# Altium integrated library Spansion Memory Flash.IntLib: 812 symbols (part 9 of 21)
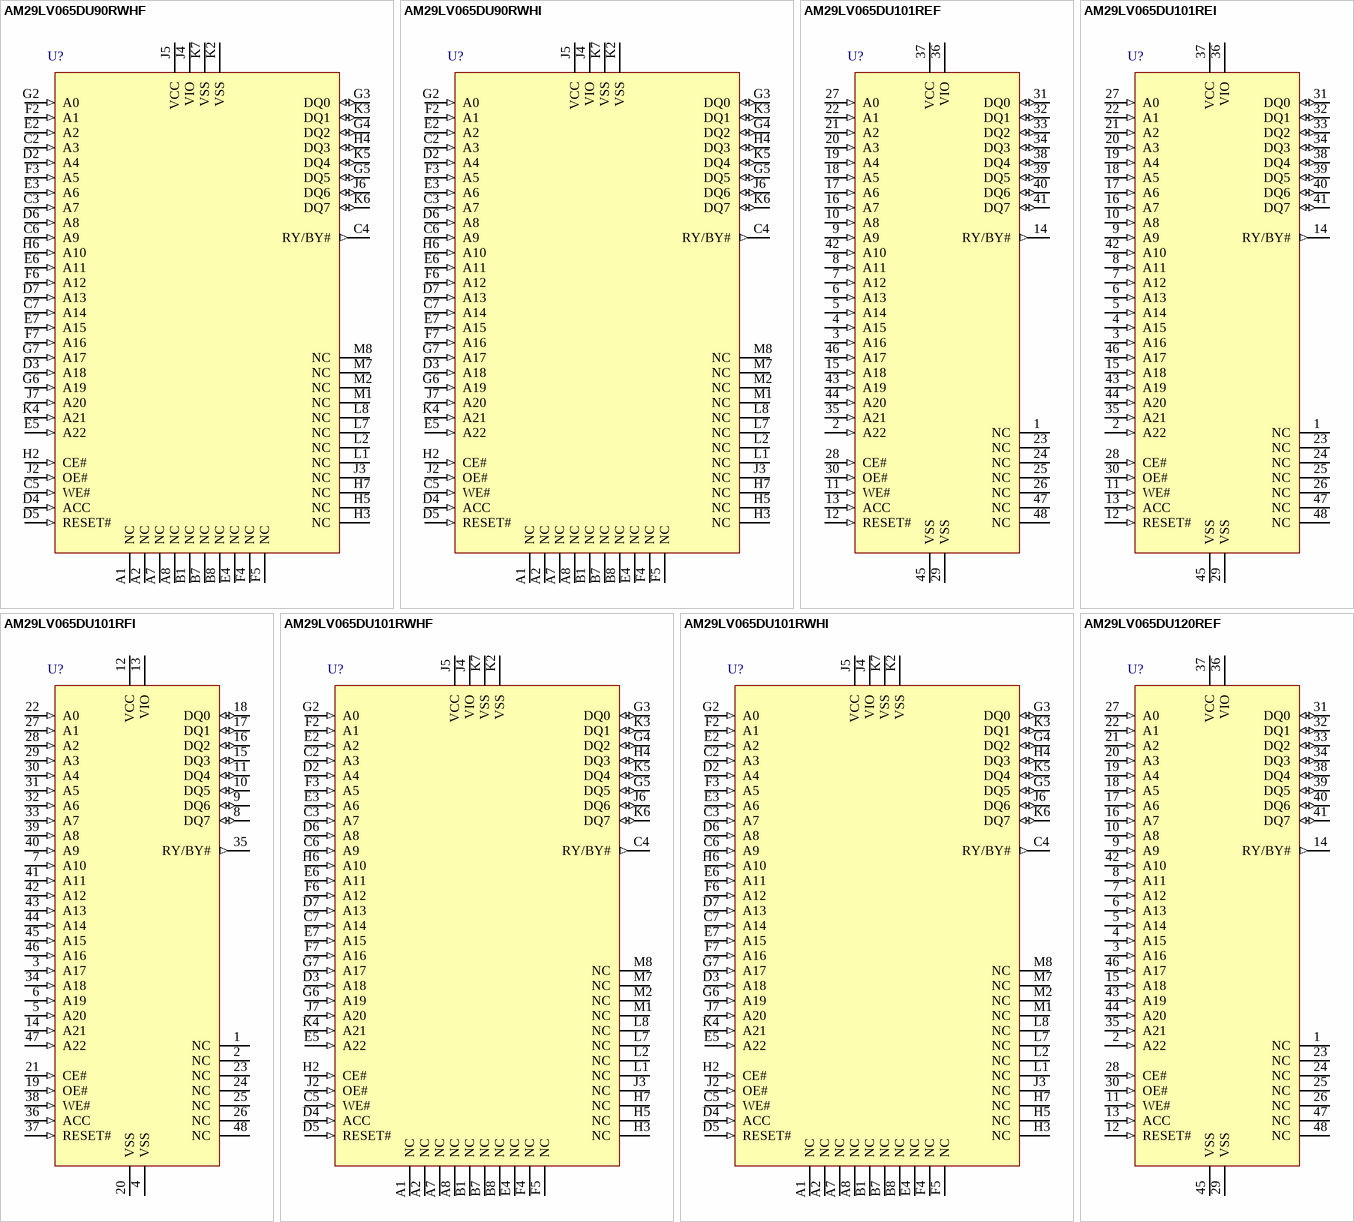
[diagram p74: symbols AM29LV065DU90RWHF to AM29LV065DU120REF]

## AM29LV065DU101RWHI
designator U?
64 Mb (8 M x 8) CMOS 3.0 Volt Uniform Sector Flash Memory with VersatileI/O control, 63-Ball FBGA, Industrial Grade; Published: 6-Oct-2005; LatestRevisionDate: 13-Apr-2006; LatestRevisionNote: IPC-7351 Footprint Added.; DatasheetVersion: Jun-2004; PackageVersion: revAF, 10/99; PackageReference: FBE063; Publisher: Altium Limited; PackageDescription: 63-Ball Fine Pitch Ball Grid Array Rectangular 0.8 mm Pitch; ComponentLink1Description: Manufacturer Link; ComponentLink1URL: http://www.spansion.com/; ComponentLink2Description: Datasheet; ComponentLink2URL: http://www.spansion.com/datasheets/23544c1.pdf
footprint FBE063 (BGA, 63-Leads, Body 12x11mm, Pitch 0.8mm)
pins: A1 NC, A2 NC, A7 NC, A8 NC, B1 NC, B7 NC, B8 NC, C2 A3 (in), C3 A7 (in), C4 RY/BY# (out), C5 WE# (in), C6 A9 (in), C7 A14 (in), D2 A4 (in), D3 A18 (in), D4 ACC (in), D5 RESET# (in), D6 A8 (in), D7 A13 (in), E2 A2 (in), E3 A6 (in), E4 NC, E5 A22 (in), E6 A11 (in), E7 A15 (in), F2 A1 (in), F3 A5 (in), F4 NC, F5 NC, F6 A12 (in), F7 A16 (in), G2 A0 (in), G3 DQ0 (io), G4 DQ2 (io), G5 DQ5 (io), G6 A19 (in), G7 A17 (in), H2 CE# (in), H3 NC, H4 DQ3 (io), H5 NC, H6 A10 (in), H7 NC, J2 OE# (in), J3 NC, J4 VIO (power), J5 VCC (power), J6 DQ6 (io), J7 A20 (in), K2 VSS (power), K3 DQ1 (io), K4 A21 (in), K5 DQ4 (io), K6 DQ7 (io), K7 VSS (power), L1 NC, L2 NC, L7 NC, L8 NC, M1 NC, M2 NC, M7 NC, M8 NC

## AM29LV065DU120REF
designator U?
64 Mb (8 M x 8) CMOS 3.0 Volt Uniform Sector Flash Memory with VersatileI/O control, 48-Pin TSOP Standard Pinout, Industrial Grade, Pb-free; Published: 6-Oct-2005; DatasheetVersion: Jun-2004; PackageVersion: revAA, 10/99; PackageReference: TS048; Publisher: Altium Limited; PackageDescription: Shrink Small Outline; 48 Leads; Body Width 18.4 mm; Pitch 0.5 mm; Code_JEDEC: MO-142-DD; ComponentLink1Description: Manufacturer Link; ComponentLink1URL: http://www.spansion.com/; ComponentLink2Description: Datasheet; ComponentLink2URL: http://www.spansion.com/datasheets/23544c1.pdf
footprint TS048 (Shrink Small Outline; 48 Leads; Body Width 18.4 mm; Pitch 0.5 mm)
pins: 1 NC, 2 A22 (in), 3 A16 (in), 4 A15 (in), 5 A14 (in), 6 A13 (in), 7 A12 (in), 8 A11 (in), 9 A9 (in), 10 A8 (in), 11 WE# (in), 12 RESET# (in), 13 ACC (in), 14 RY/BY# (out), 15 A18 (in), 16 A7 (in), 17 A6 (in), 18 A5 (in), 19 A4 (in), 20 A3 (in), 21 A2 (in), 22 A1 (in), 23 NC, 24 NC, 25 NC, 26 NC, 27 A0 (in), 28 CE# (in), 29 VSS (power), 30 OE# (in), 31 DQ0 (io), 32 DQ1 (io), 33 DQ2 (io), 34 DQ3 (io), 35 A21 (in), 36 VIO (power), 37 VCC (power), 38 DQ4 (io), 39 DQ5 (io), 40 DQ6 (io), 41 DQ7 (io), 42 A10 (in), 43 A19 (in), 44 A20 (in), 45 VSS (power), 46 A17 (in), 47 NC, 48 NC

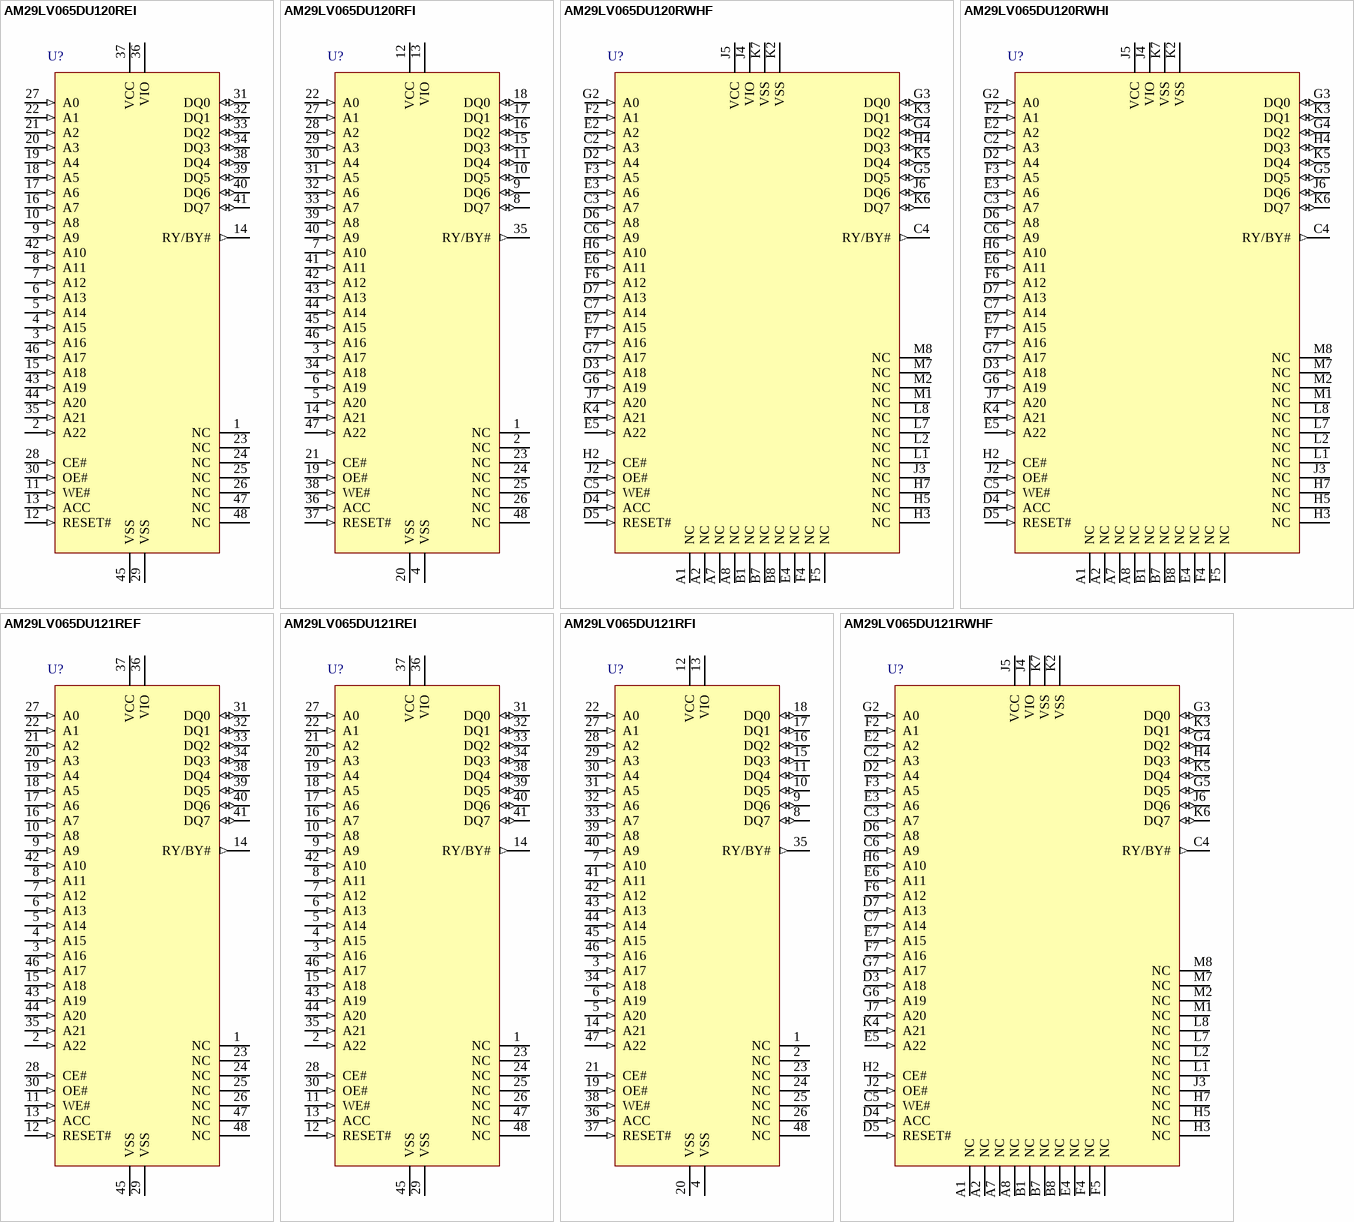
[diagram p25: symbols AM29LV065DU120REI to AM29LV065DU121RWHF]

## AM29LV065DU120REI
designator U?
64 Mb (8 M x 8) CMOS 3.0 Volt Uniform Sector Flash Memory with VersatileI/O control, 48-Pin TSOP Standard Pinout, Industrial Grade; Published: 6-Oct-2005; DatasheetVersion: Jun-2004; PackageVersion: revAA, 10/99; PackageReference: TS048; Publisher: Altium Limited; PackageDescription: Shrink Small Outline; 48 Leads; Body Width 18.4 mm; Pitch 0.5 mm; Code_JEDEC: MO-142-DD; ComponentLink1Description: Manufacturer Link; ComponentLink1URL: http://www.spansion.com/; ComponentLink2Description: Datasheet; ComponentLink2URL: http://www.spansion.com/datasheets/23544c1.pdf
footprint TS048 (Shrink Small Outline; 48 Leads; Body Width 18.4 mm; Pitch 0.5 mm)
pins: 1 NC, 2 A22 (in), 3 A16 (in), 4 A15 (in), 5 A14 (in), 6 A13 (in), 7 A12 (in), 8 A11 (in), 9 A9 (in), 10 A8 (in), 11 WE# (in), 12 RESET# (in), 13 ACC (in), 14 RY/BY# (out), 15 A18 (in), 16 A7 (in), 17 A6 (in), 18 A5 (in), 19 A4 (in), 20 A3 (in), 21 A2 (in), 22 A1 (in), 23 NC, 24 NC, 25 NC, 26 NC, 27 A0 (in), 28 CE# (in), 29 VSS (power), 30 OE# (in), 31 DQ0 (io), 32 DQ1 (io), 33 DQ2 (io), 34 DQ3 (io), 35 A21 (in), 36 VIO (power), 37 VCC (power), 38 DQ4 (io), 39 DQ5 (io), 40 DQ6 (io), 41 DQ7 (io), 42 A10 (in), 43 A19 (in), 44 A20 (in), 45 VSS (power), 46 A17 (in), 47 NC, 48 NC

## AM29LV065DU120RFI
designator U?
64 Mb (8 M x 8) CMOS 3.0 Volt Uniform Sector Flash Memory with VersatileI/O control, 48-Pin TSOP Reverse Pinout, Industrial Grade; Published: 6-Oct-2005; DatasheetVersion: Jun-2004; PackageVersion: revAA, 10/99; PackageReference: TSR048; Publisher: Altium Limited; PackageDescription: Thin Small Outline, Reverse Pinout; 48 Leads; Body Width 18.4 mm; Pitch 0.5 mm; Code_JEDEC: MO-142-DD; ComponentLink1Description: Manufacturer Link; ComponentLink1URL: http://www.spansion.com/; ComponentLink2Description: Datasheet; ComponentLink2URL: http://www.spansion.com/datasheets/23544c1.pdf
footprint TSR048 (Thin Small Outline, Reverse Pinout; 48 Leads; Body Width 18.4 mm; Pitch 0.5 mm)
pins: 1 NC, 2 NC, 3 A17 (in), 4 VSS (power), 5 A20 (in), 6 A19 (in), 7 A10 (in), 8 DQ7 (io), 9 DQ6 (io), 10 DQ5 (io), 11 DQ4 (io), 12 VCC (power), 13 VIO (power), 14 A21 (in), 15 DQ3 (io), 16 DQ2 (io), 17 DQ1 (io), 18 DQ0 (io), 19 OE# (in), 20 VSS (power), 21 CE# (in), 22 A0 (in), 23 NC, 24 NC, 25 NC, 26 NC, 27 A1 (in), 28 A2 (in), 29 A3 (in), 30 A4 (in), 31 A5 (in), 32 A6 (in), 33 A7 (in), 34 A18 (in), 35 RY/BY# (out), 36 ACC (in), 37 RESET# (in), 38 WE# (in), 39 A8 (in), 40 A9 (in), 41 A11 (in), 42 A12 (in), 43 A13 (in), 44 A14 (in), 45 A15 (in), 46 A16 (in), 47 A22 (in), 48 NC

## AM29LV065DU120RWHF
designator U?
64 Mb (8 M x 8) CMOS 3.0 Volt Uniform Sector Flash Memory with VersatileI/O control, 63-Ball FBGA, Industrial Grade, Pb-free; Published: 6-Oct-2005; LatestRevisionDate: 13-Apr-2006; LatestRevisionNote: IPC-7351 Footprint Added.; DatasheetVersion: Jun-2004; PackageVersion: revAF, 10/99; PackageReference: FBE063; Publisher: Altium Limited; PackageDescription: 63-Ball Fine Pitch Ball Grid Array Rectangular 0.8 mm Pitch; ComponentLink1Description: Manufacturer Link; ComponentLink1URL: http://www.spansion.com/; ComponentLink2Description: Datasheet; ComponentLink2URL: http://www.spansion.com/datasheets/23544c1.pdf
footprint FBE063 (BGA, 63-Leads, Body 12x11mm, Pitch 0.8mm)
pins: A1 NC, A2 NC, A7 NC, A8 NC, B1 NC, B7 NC, B8 NC, C2 A3 (in), C3 A7 (in), C4 RY/BY# (out), C5 WE# (in), C6 A9 (in), C7 A14 (in), D2 A4 (in), D3 A18 (in), D4 ACC (in), D5 RESET# (in), D6 A8 (in), D7 A13 (in), E2 A2 (in), E3 A6 (in), E4 NC, E5 A22 (in), E6 A11 (in), E7 A15 (in), F2 A1 (in), F3 A5 (in), F4 NC, F5 NC, F6 A12 (in), F7 A16 (in), G2 A0 (in), G3 DQ0 (io), G4 DQ2 (io), G5 DQ5 (io), G6 A19 (in), G7 A17 (in), H2 CE# (in), H3 NC, H4 DQ3 (io), H5 NC, H6 A10 (in), H7 NC, J2 OE# (in), J3 NC, J4 VIO (power), J5 VCC (power), J6 DQ6 (io), J7 A20 (in), K2 VSS (power), K3 DQ1 (io), K4 A21 (in), K5 DQ4 (io), K6 DQ7 (io), K7 VSS (power), L1 NC, L2 NC, L7 NC, L8 NC, M1 NC, M2 NC, M7 NC, M8 NC

## AM29LV065DU120RWHI
designator U?
64 Mb (8 M x 8) CMOS 3.0 Volt Uniform Sector Flash Memory with VersatileI/O control, 63-Ball FBGA, Industrial Grade; Published: 6-Oct-2005; LatestRevisionDate: 13-Apr-2006; LatestRevisionNote: IPC-7351 Footprint Added.; DatasheetVersion: Jun-2004; PackageVersion: revAF, 10/99; PackageReference: FBE063; Publisher: Altium Limited; PackageDescription: 63-Ball Fine Pitch Ball Grid Array Rectangular 0.8 mm Pitch; ComponentLink1Description: Manufacturer Link; ComponentLink1URL: http://www.spansion.com/; ComponentLink2Description: Datasheet; ComponentLink2URL: http://www.spansion.com/datasheets/23544c1.pdf
footprint FBE063 (BGA, 63-Leads, Body 12x11mm, Pitch 0.8mm)
pins: A1 NC, A2 NC, A7 NC, A8 NC, B1 NC, B7 NC, B8 NC, C2 A3 (in), C3 A7 (in), C4 RY/BY# (out), C5 WE# (in), C6 A9 (in), C7 A14 (in), D2 A4 (in), D3 A18 (in), D4 ACC (in), D5 RESET# (in), D6 A8 (in), D7 A13 (in), E2 A2 (in), E3 A6 (in), E4 NC, E5 A22 (in), E6 A11 (in), E7 A15 (in), F2 A1 (in), F3 A5 (in), F4 NC, F5 NC, F6 A12 (in), F7 A16 (in), G2 A0 (in), G3 DQ0 (io), G4 DQ2 (io), G5 DQ5 (io), G6 A19 (in), G7 A17 (in), H2 CE# (in), H3 NC, H4 DQ3 (io), H5 NC, H6 A10 (in), H7 NC, J2 OE# (in), J3 NC, J4 VIO (power), J5 VCC (power), J6 DQ6 (io), J7 A20 (in), K2 VSS (power), K3 DQ1 (io), K4 A21 (in), K5 DQ4 (io), K6 DQ7 (io), K7 VSS (power), L1 NC, L2 NC, L7 NC, L8 NC, M1 NC, M2 NC, M7 NC, M8 NC

## AM29LV065DU121REF
designator U?
64 Mb (8 M x 8) CMOS 3.0 Volt Uniform Sector Flash Memory with VersatileI/O control, 48-Pin TSOP Standard Pinout, Industrial Grade, Pb-free; Published: 6-Oct-2005; DatasheetVersion: Jun-2004; PackageVersion: revAA, 10/99; PackageReference: TS048; Publisher: Altium Limited; PackageDescription: Shrink Small Outline; 48 Leads; Body Width 18.4 mm; Pitch 0.5 mm; Code_JEDEC: MO-142-DD; ComponentLink1Description: Manufacturer Link; ComponentLink1URL: http://www.spansion.com/; ComponentLink2Description: Datasheet; ComponentLink2URL: http://www.spansion.com/datasheets/23544c1.pdf
footprint TS048 (Shrink Small Outline; 48 Leads; Body Width 18.4 mm; Pitch 0.5 mm)
pins: 1 NC, 2 A22 (in), 3 A16 (in), 4 A15 (in), 5 A14 (in), 6 A13 (in), 7 A12 (in), 8 A11 (in), 9 A9 (in), 10 A8 (in), 11 WE# (in), 12 RESET# (in), 13 ACC (in), 14 RY/BY# (out), 15 A18 (in), 16 A7 (in), 17 A6 (in), 18 A5 (in), 19 A4 (in), 20 A3 (in), 21 A2 (in), 22 A1 (in), 23 NC, 24 NC, 25 NC, 26 NC, 27 A0 (in), 28 CE# (in), 29 VSS (power), 30 OE# (in), 31 DQ0 (io), 32 DQ1 (io), 33 DQ2 (io), 34 DQ3 (io), 35 A21 (in), 36 VIO (power), 37 VCC (power), 38 DQ4 (io), 39 DQ5 (io), 40 DQ6 (io), 41 DQ7 (io), 42 A10 (in), 43 A19 (in), 44 A20 (in), 45 VSS (power), 46 A17 (in), 47 NC, 48 NC

## AM29LV065DU121REI
designator U?
64 Mb (8 M x 8) CMOS 3.0 Volt Uniform Sector Flash Memory with VersatileI/O control, 48-Pin TSOP Standard Pinout, Industrial Grade; Published: 6-Oct-2005; DatasheetVersion: Jun-2004; PackageVersion: revAA, 10/99; PackageReference: TS048; Publisher: Altium Limited; PackageDescription: Shrink Small Outline; 48 Leads; Body Width 18.4 mm; Pitch 0.5 mm; Code_JEDEC: MO-142-DD; ComponentLink1Description: Manufacturer Link; ComponentLink1URL: http://www.spansion.com/; ComponentLink2Description: Datasheet; ComponentLink2URL: http://www.spansion.com/datasheets/23544c1.pdf
footprint TS048 (Shrink Small Outline; 48 Leads; Body Width 18.4 mm; Pitch 0.5 mm)
pins: 1 NC, 2 A22 (in), 3 A16 (in), 4 A15 (in), 5 A14 (in), 6 A13 (in), 7 A12 (in), 8 A11 (in), 9 A9 (in), 10 A8 (in), 11 WE# (in), 12 RESET# (in), 13 ACC (in), 14 RY/BY# (out), 15 A18 (in), 16 A7 (in), 17 A6 (in), 18 A5 (in), 19 A4 (in), 20 A3 (in), 21 A2 (in), 22 A1 (in), 23 NC, 24 NC, 25 NC, 26 NC, 27 A0 (in), 28 CE# (in), 29 VSS (power), 30 OE# (in), 31 DQ0 (io), 32 DQ1 (io), 33 DQ2 (io), 34 DQ3 (io), 35 A21 (in), 36 VIO (power), 37 VCC (power), 38 DQ4 (io), 39 DQ5 (io), 40 DQ6 (io), 41 DQ7 (io), 42 A10 (in), 43 A19 (in), 44 A20 (in), 45 VSS (power), 46 A17 (in), 47 NC, 48 NC

## AM29LV065DU121RFI
designator U?
64 Mb (8 M x 8) CMOS 3.0 Volt Uniform Sector Flash Memory with VersatileI/O control, 48-Pin TSOP Reverse Pinout, Industrial Grade; Published: 6-Oct-2005; DatasheetVersion: Jun-2004; PackageVersion: revAA, 10/99; PackageReference: TSR048; Publisher: Altium Limited; PackageDescription: Thin Small Outline, Reverse Pinout; 48 Leads; Body Width 18.4 mm; Pitch 0.5 mm; Code_JEDEC: MO-142-DD; ComponentLink1Description: Manufacturer Link; ComponentLink1URL: http://www.spansion.com/; ComponentLink2Description: Datasheet; ComponentLink2URL: http://www.spansion.com/datasheets/23544c1.pdf
footprint TSR048 (Thin Small Outline, Reverse Pinout; 48 Leads; Body Width 18.4 mm; Pitch 0.5 mm)
pins: 1 NC, 2 NC, 3 A17 (in), 4 VSS (power), 5 A20 (in), 6 A19 (in), 7 A10 (in), 8 DQ7 (io), 9 DQ6 (io), 10 DQ5 (io), 11 DQ4 (io), 12 VCC (power), 13 VIO (power), 14 A21 (in), 15 DQ3 (io), 16 DQ2 (io), 17 DQ1 (io), 18 DQ0 (io), 19 OE# (in), 20 VSS (power), 21 CE# (in), 22 A0 (in), 23 NC, 24 NC, 25 NC, 26 NC, 27 A1 (in), 28 A2 (in), 29 A3 (in), 30 A4 (in), 31 A5 (in), 32 A6 (in), 33 A7 (in), 34 A18 (in), 35 RY/BY# (out), 36 ACC (in), 37 RESET# (in), 38 WE# (in), 39 A8 (in), 40 A9 (in), 41 A11 (in), 42 A12 (in), 43 A13 (in), 44 A14 (in), 45 A15 (in), 46 A16 (in), 47 A22 (in), 48 NC

## AM29LV065DU121RWHF
designator U?
64 Mb (8 M x 8) CMOS 3.0 Volt Uniform Sector Flash Memory with VersatileI/O control, 63-Ball FBGA, Industrial Grade, Pb-free; Published: 6-Oct-2005; LatestRevisionDate: 13-Apr-2006; LatestRevisionNote: IPC-7351 Footprint Added.; DatasheetVersion: Jun-2004; PackageVersion: revAF, 10/99; PackageReference: FBE063; Publisher: Altium Limited; PackageDescription: 63-Ball Fine Pitch Ball Grid Array Rectangular 0.8 mm Pitch; ComponentLink1Description: Manufacturer Link; ComponentLink1URL: http://www.spansion.com/; ComponentLink2Description: Datasheet; ComponentLink2URL: http://www.spansion.com/datasheets/23544c1.pdf
footprint FBE063 (BGA, 63-Leads, Body 12x11mm, Pitch 0.8mm)
pins: A1 NC, A2 NC, A7 NC, A8 NC, B1 NC, B7 NC, B8 NC, C2 A3 (in), C3 A7 (in), C4 RY/BY# (out), C5 WE# (in), C6 A9 (in), C7 A14 (in), D2 A4 (in), D3 A18 (in), D4 ACC (in), D5 RESET# (in), D6 A8 (in), D7 A13 (in), E2 A2 (in), E3 A6 (in), E4 NC, E5 A22 (in), E6 A11 (in), E7 A15 (in), F2 A1 (in), F3 A5 (in), F4 NC, F5 NC, F6 A12 (in), F7 A16 (in), G2 A0 (in), G3 DQ0 (io), G4 DQ2 (io), G5 DQ5 (io), G6 A19 (in), G7 A17 (in), H2 CE# (in), H3 NC, H4 DQ3 (io), H5 NC, H6 A10 (in), H7 NC, J2 OE# (in), J3 NC, J4 VIO (power), J5 VCC (power), J6 DQ6 (io), J7 A20 (in), K2 VSS (power), K3 DQ1 (io), K4 A21 (in), K5 DQ4 (io), K6 DQ7 (io), K7 VSS (power), L1 NC, L2 NC, L7 NC, L8 NC, M1 NC, M2 NC, M7 NC, M8 NC

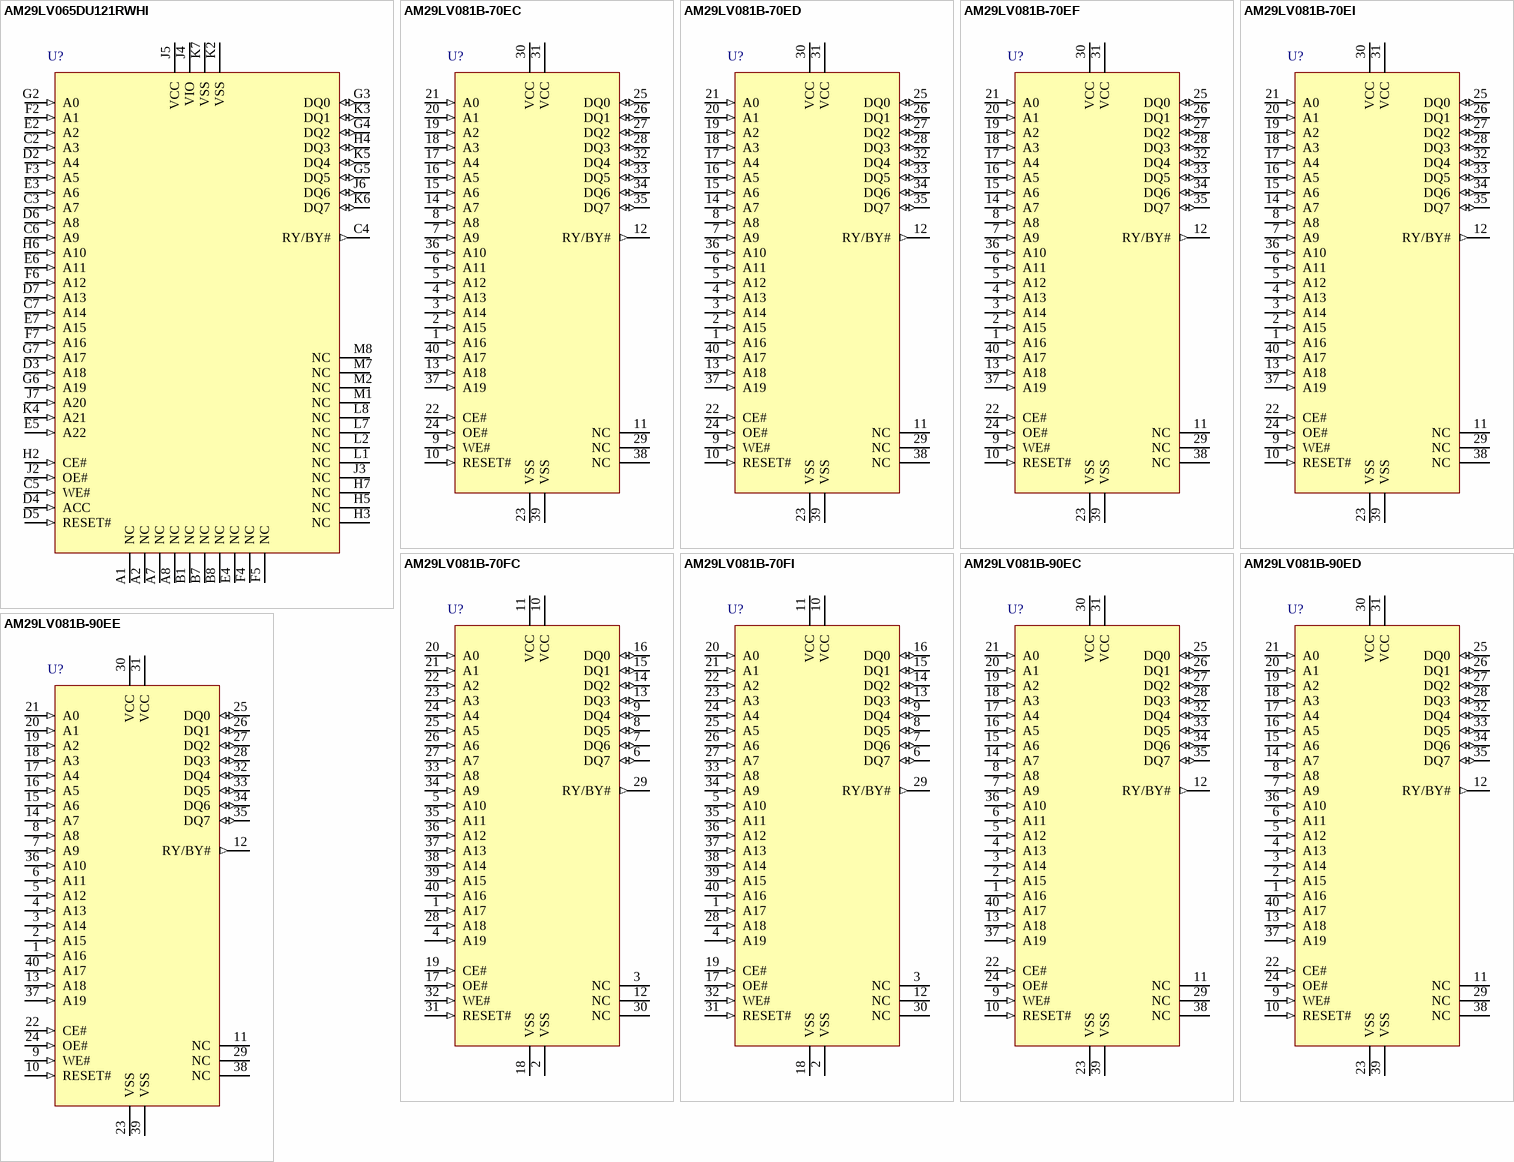
[diagram p26: symbols AM29LV065DU121RWHI to AM29LV081B-90EE]

## AM29LV065DU121RWHI
designator U?
64 Mb (8 M x 8) CMOS 3.0 Volt Uniform Sector Flash Memory with VersatileI/O control, 63-Ball FBGA, Industrial Grade; Published: 6-Oct-2005; LatestRevisionDate: 13-Apr-2006; LatestRevisionNote: IPC-7351 Footprint Added.; DatasheetVersion: Jun-2004; PackageVersion: revAF, 10/99; PackageReference: FBE063; Publisher: Altium Limited; PackageDescription: 63-Ball Fine Pitch Ball Grid Array Rectangular 0.8 mm Pitch; ComponentLink1Description: Manufacturer Link; ComponentLink1URL: http://www.spansion.com/; ComponentLink2Description: Datasheet; ComponentLink2URL: http://www.spansion.com/datasheets/23544c1.pdf
footprint FBE063 (BGA, 63-Leads, Body 12x11mm, Pitch 0.8mm)
pins: A1 NC, A2 NC, A7 NC, A8 NC, B1 NC, B7 NC, B8 NC, C2 A3 (in), C3 A7 (in), C4 RY/BY# (out), C5 WE# (in), C6 A9 (in), C7 A14 (in), D2 A4 (in), D3 A18 (in), D4 ACC (in), D5 RESET# (in), D6 A8 (in), D7 A13 (in), E2 A2 (in), E3 A6 (in), E4 NC, E5 A22 (in), E6 A11 (in), E7 A15 (in), F2 A1 (in), F3 A5 (in), F4 NC, F5 NC, F6 A12 (in), F7 A16 (in), G2 A0 (in), G3 DQ0 (io), G4 DQ2 (io), G5 DQ5 (io), G6 A19 (in), G7 A17 (in), H2 CE# (in), H3 NC, H4 DQ3 (io), H5 NC, H6 A10 (in), H7 NC, J2 OE# (in), J3 NC, J4 VIO (power), J5 VCC (power), J6 DQ6 (io), J7 A20 (in), K2 VSS (power), K3 DQ1 (io), K4 A21 (in), K5 DQ4 (io), K6 DQ7 (io), K7 VSS (power), L1 NC, L2 NC, L7 NC, L8 NC, M1 NC, M2 NC, M7 NC, M8 NC

## AM29LV081B-70EC
designator U?
8 Mb (1 M x 8) CMOS 3.0 Volt Uniform Sector Flash Memory, 40-Pin TSOP Standard Pinout, Commercial Grade; Published: 6-Oct-2005; DatasheetVersion: Jun-2004; PackageVersion: revAA, 10/99; PackageReference: TS040; Publisher: Altium Limited; PackageDescription: Thin Small Outline; 40 Leads; Body Width 18.4 mm; Pitch 0.5 mm; Code_JEDEC: MO-142-CD; ComponentLink1Description: Manufacturer Link; ComponentLink1URL: http://www.spansion.com/; ComponentLink2Description: Datasheet; ComponentLink2URL: http://www.spansion.com/datasheets/21525d3.pdf
footprint TS040 (Thin Small Outline; 40 Leads; Body Width 18.4 mm; Pitch 0.5 mm)
pins: 1 A16 (in), 2 A15 (in), 3 A14 (in), 4 A13 (in), 5 A12 (in), 6 A11 (in), 7 A9 (in), 8 A8 (in), 9 WE# (in), 10 RESET# (in), 11 NC, 12 RY/BY# (out), 13 A18 (in), 14 A7 (in), 15 A6 (in), 16 A5 (in), 17 A4 (in), 18 A3 (in), 19 A2 (in), 20 A1 (in), 21 A0 (in), 22 CE# (in), 23 VSS (power), 24 OE# (in), 25 DQ0 (io), 26 DQ1 (io), 27 DQ2 (io), 28 DQ3 (io), 29 NC, 30 VCC (power), 31 VCC (power), 32 DQ4 (io), 33 DQ5 (io), 34 DQ6 (io), 35 DQ7 (io), 36 A10 (in), 37 A19 (in), 38 NC, 39 VSS (power), 40 A17 (in)

## AM29LV081B-70ED
designator U?
8 Mb (1 M x 8) CMOS 3.0 Volt Uniform Sector Flash Memory, 40-Pin TSOP Standard Pinout, Commercial Grade, Pb-free; Published: 6-Oct-2005; DatasheetVersion: Jun-2004; PackageVersion: revAA, 10/99; PackageReference: TS040; Publisher: Altium Limited; PackageDescription: Thin Small Outline; 40 Leads; Body Width 18.4 mm; Pitch 0.5 mm; Code_JEDEC: MO-142-CD; ComponentLink1Description: Manufacturer Link; ComponentLink1URL: http://www.spansion.com/; ComponentLink2Description: Datasheet; ComponentLink2URL: http://www.spansion.com/datasheets/21525d3.pdf
footprint TS040 (Thin Small Outline; 40 Leads; Body Width 18.4 mm; Pitch 0.5 mm)
pins: 1 A16 (in), 2 A15 (in), 3 A14 (in), 4 A13 (in), 5 A12 (in), 6 A11 (in), 7 A9 (in), 8 A8 (in), 9 WE# (in), 10 RESET# (in), 11 NC, 12 RY/BY# (out), 13 A18 (in), 14 A7 (in), 15 A6 (in), 16 A5 (in), 17 A4 (in), 18 A3 (in), 19 A2 (in), 20 A1 (in), 21 A0 (in), 22 CE# (in), 23 VSS (power), 24 OE# (in), 25 DQ0 (io), 26 DQ1 (io), 27 DQ2 (io), 28 DQ3 (io), 29 NC, 30 VCC (power), 31 VCC (power), 32 DQ4 (io), 33 DQ5 (io), 34 DQ6 (io), 35 DQ7 (io), 36 A10 (in), 37 A19 (in), 38 NC, 39 VSS (power), 40 A17 (in)

## AM29LV081B-70EF
designator U?
8 Mb (1 M x 8) CMOS 3.0 Volt Uniform Sector Flash Memory, 40-Pin TSOP Standard Pinout, Industrial Grade, Pb-free; Published: 6-Oct-2005; DatasheetVersion: Jun-2004; PackageVersion: revAA, 10/99; PackageReference: TS040; Publisher: Altium Limited; PackageDescription: Thin Small Outline; 40 Leads; Body Width 18.4 mm; Pitch 0.5 mm; Code_JEDEC: MO-142-CD; ComponentLink1Description: Manufacturer Link; ComponentLink1URL: http://www.spansion.com/; ComponentLink2Description: Datasheet; ComponentLink2URL: http://www.spansion.com/datasheets/21525d3.pdf
footprint TS040 (Thin Small Outline; 40 Leads; Body Width 18.4 mm; Pitch 0.5 mm)
pins: 1 A16 (in), 2 A15 (in), 3 A14 (in), 4 A13 (in), 5 A12 (in), 6 A11 (in), 7 A9 (in), 8 A8 (in), 9 WE# (in), 10 RESET# (in), 11 NC, 12 RY/BY# (out), 13 A18 (in), 14 A7 (in), 15 A6 (in), 16 A5 (in), 17 A4 (in), 18 A3 (in), 19 A2 (in), 20 A1 (in), 21 A0 (in), 22 CE# (in), 23 VSS (power), 24 OE# (in), 25 DQ0 (io), 26 DQ1 (io), 27 DQ2 (io), 28 DQ3 (io), 29 NC, 30 VCC (power), 31 VCC (power), 32 DQ4 (io), 33 DQ5 (io), 34 DQ6 (io), 35 DQ7 (io), 36 A10 (in), 37 A19 (in), 38 NC, 39 VSS (power), 40 A17 (in)

## AM29LV081B-70EI
designator U?
8 Mb (1 M x 8) CMOS 3.0 Volt Uniform Sector Flash Memory, 40-Pin TSOP Standard Pinout, Industrial Grade; Published: 6-Oct-2005; DatasheetVersion: Jun-2004; PackageVersion: revAA, 10/99; PackageReference: TS040; Publisher: Altium Limited; PackageDescription: Thin Small Outline; 40 Leads; Body Width 18.4 mm; Pitch 0.5 mm; Code_JEDEC: MO-142-CD; ComponentLink1Description: Manufacturer Link; ComponentLink1URL: http://www.spansion.com/; ComponentLink2Description: Datasheet; ComponentLink2URL: http://www.spansion.com/datasheets/21525d3.pdf
footprint TS040 (Thin Small Outline; 40 Leads; Body Width 18.4 mm; Pitch 0.5 mm)
pins: 1 A16 (in), 2 A15 (in), 3 A14 (in), 4 A13 (in), 5 A12 (in), 6 A11 (in), 7 A9 (in), 8 A8 (in), 9 WE# (in), 10 RESET# (in), 11 NC, 12 RY/BY# (out), 13 A18 (in), 14 A7 (in), 15 A6 (in), 16 A5 (in), 17 A4 (in), 18 A3 (in), 19 A2 (in), 20 A1 (in), 21 A0 (in), 22 CE# (in), 23 VSS (power), 24 OE# (in), 25 DQ0 (io), 26 DQ1 (io), 27 DQ2 (io), 28 DQ3 (io), 29 NC, 30 VCC (power), 31 VCC (power), 32 DQ4 (io), 33 DQ5 (io), 34 DQ6 (io), 35 DQ7 (io), 36 A10 (in), 37 A19 (in), 38 NC, 39 VSS (power), 40 A17 (in)

## AM29LV081B-70FC
designator U?
8 Mb (1 M x 8) CMOS 3.0 Volt Uniform Sector Flash Memory, 40-Pin TSOP Reverse Pinout, Commercial Grade; Published: 6-Oct-2005; DatasheetVersion: Jun-2004; PackageVersion: revAA, 10/99; PackageReference: TSR040; Publisher: Altium Limited; PackageDescription: Thin Small Outline, Reverse Pinout; 40 Leads; Body Width 18.4 mm; Pitch 0.5 mm; Code_JEDEC: MO-142-CD; ComponentLink1Description: Manufacturer Link; ComponentLink1URL: http://www.spansion.com/; ComponentLink2Description: Datasheet; ComponentLink2URL: http://www.spansion.com/datasheets/21525d3.pdf
footprint TSR040 (Thin Small Outline, Reverse Pinout; 40 Leads; Body Width 18.4 mm; Pitch 0.5 mm)
pins: 1 A17 (in), 2 VSS (power), 3 NC, 4 A19 (in), 5 A10 (in), 6 DQ7 (io), 7 DQ6 (io), 8 DQ5 (io), 9 DQ4 (io), 10 VCC (power), 11 VCC (power), 12 NC, 13 DQ3 (io), 14 DQ2 (io), 15 DQ1 (io), 16 DQ0 (io), 17 OE# (in), 18 VSS (power), 19 CE# (in), 20 A0 (in), 21 A1 (in), 22 A2 (in), 23 A3 (in), 24 A4 (in), 25 A5 (in), 26 A6 (in), 27 A7 (in), 28 A18 (in), 29 RY/BY# (out), 30 NC, 31 RESET# (in), 32 WE# (in), 33 A8 (in), 34 A9 (in), 35 A11 (in), 36 A12 (in), 37 A13 (in), 38 A14 (in), 39 A15 (in), 40 A16 (in)

## AM29LV081B-70FI
designator U?
8 Mb (1 M x 8) CMOS 3.0 Volt Uniform Sector Flash Memory, 40-Pin TSOP Reverse Pinout, Industrial Grade; Published: 6-Oct-2005; DatasheetVersion: Jun-2004; PackageVersion: revAA, 10/99; PackageReference: TSR040; Publisher: Altium Limited; PackageDescription: Thin Small Outline, Reverse Pinout; 40 Leads; Body Width 18.4 mm; Pitch 0.5 mm; Code_JEDEC: MO-142-CD; ComponentLink1Description: Manufacturer Link; ComponentLink1URL: http://www.spansion.com/; ComponentLink2Description: Datasheet; ComponentLink2URL: http://www.spansion.com/datasheets/21525d3.pdf
footprint TSR040 (Thin Small Outline, Reverse Pinout; 40 Leads; Body Width 18.4 mm; Pitch 0.5 mm)
pins: 1 A17 (in), 2 VSS (power), 3 NC, 4 A19 (in), 5 A10 (in), 6 DQ7 (io), 7 DQ6 (io), 8 DQ5 (io), 9 DQ4 (io), 10 VCC (power), 11 VCC (power), 12 NC, 13 DQ3 (io), 14 DQ2 (io), 15 DQ1 (io), 16 DQ0 (io), 17 OE# (in), 18 VSS (power), 19 CE# (in), 20 A0 (in), 21 A1 (in), 22 A2 (in), 23 A3 (in), 24 A4 (in), 25 A5 (in), 26 A6 (in), 27 A7 (in), 28 A18 (in), 29 RY/BY# (out), 30 NC, 31 RESET# (in), 32 WE# (in), 33 A8 (in), 34 A9 (in), 35 A11 (in), 36 A12 (in), 37 A13 (in), 38 A14 (in), 39 A15 (in), 40 A16 (in)

## AM29LV081B-90EC
designator U?
8 Mb (1 M x 8) CMOS 3.0 Volt Uniform Sector Flash Memory, 40-Pin TSOP Standard Pinout, Commercial Grade; Published: 6-Oct-2005; DatasheetVersion: Jun-2004; PackageVersion: revAA, 10/99; PackageReference: TS040; Publisher: Altium Limited; PackageDescription: Thin Small Outline; 40 Leads; Body Width 18.4 mm; Pitch 0.5 mm; Code_JEDEC: MO-142-CD; ComponentLink1Description: Manufacturer Link; ComponentLink1URL: http://www.spansion.com/; ComponentLink2Description: Datasheet; ComponentLink2URL: http://www.spansion.com/datasheets/21525d3.pdf
footprint TS040 (Thin Small Outline; 40 Leads; Body Width 18.4 mm; Pitch 0.5 mm)
pins: 1 A16 (in), 2 A15 (in), 3 A14 (in), 4 A13 (in), 5 A12 (in), 6 A11 (in), 7 A9 (in), 8 A8 (in), 9 WE# (in), 10 RESET# (in), 11 NC, 12 RY/BY# (out), 13 A18 (in), 14 A7 (in), 15 A6 (in), 16 A5 (in), 17 A4 (in), 18 A3 (in), 19 A2 (in), 20 A1 (in), 21 A0 (in), 22 CE# (in), 23 VSS (power), 24 OE# (in), 25 DQ0 (io), 26 DQ1 (io), 27 DQ2 (io), 28 DQ3 (io), 29 NC, 30 VCC (power), 31 VCC (power), 32 DQ4 (io), 33 DQ5 (io), 34 DQ6 (io), 35 DQ7 (io), 36 A10 (in), 37 A19 (in), 38 NC, 39 VSS (power), 40 A17 (in)

## AM29LV081B-90ED
designator U?
8 Mb (1 M x 8) CMOS 3.0 Volt Uniform Sector Flash Memory, 40-Pin TSOP Standard Pinout, Commercial Grade, Pb-free; Published: 6-Oct-2005; DatasheetVersion: Jun-2004; PackageVersion: revAA, 10/99; PackageReference: TS040; Publisher: Altium Limited; PackageDescription: Thin Small Outline; 40 Leads; Body Width 18.4 mm; Pitch 0.5 mm; Code_JEDEC: MO-142-CD; ComponentLink1Description: Manufacturer Link; ComponentLink1URL: http://www.spansion.com/; ComponentLink2Description: Datasheet; ComponentLink2URL: http://www.spansion.com/datasheets/21525d3.pdf
footprint TS040 (Thin Small Outline; 40 Leads; Body Width 18.4 mm; Pitch 0.5 mm)
pins: 1 A16 (in), 2 A15 (in), 3 A14 (in), 4 A13 (in), 5 A12 (in), 6 A11 (in), 7 A9 (in), 8 A8 (in), 9 WE# (in), 10 RESET# (in), 11 NC, 12 RY/BY# (out), 13 A18 (in), 14 A7 (in), 15 A6 (in), 16 A5 (in), 17 A4 (in), 18 A3 (in), 19 A2 (in), 20 A1 (in), 21 A0 (in), 22 CE# (in), 23 VSS (power), 24 OE# (in), 25 DQ0 (io), 26 DQ1 (io), 27 DQ2 (io), 28 DQ3 (io), 29 NC, 30 VCC (power), 31 VCC (power), 32 DQ4 (io), 33 DQ5 (io), 34 DQ6 (io), 35 DQ7 (io), 36 A10 (in), 37 A19 (in), 38 NC, 39 VSS (power), 40 A17 (in)

## AM29LV081B-90EE
designator U?
8 Mb (1 M x 8) CMOS 3.0 Volt Uniform Sector Flash Memory, 40-Pin TSOP Standard Pinout, Extended Grade; Published: 6-Oct-2005; DatasheetVersion: Jun-2004; PackageVersion: revAA, 10/99; PackageReference: TS040; Publisher: Altium Limited; PackageDescription: Thin Small Outline; 40 Leads; Body Width 18.4 mm; Pitch 0.5 mm; Code_JEDEC: MO-142-CD; ComponentLink1Description: Manufacturer Link; ComponentLink1URL: http://www.spansion.com/; ComponentLink2Description: Datasheet; ComponentLink2URL: http://www.spansion.com/datasheets/21525d3.pdf
footprint TS040 (Thin Small Outline; 40 Leads; Body Width 18.4 mm; Pitch 0.5 mm)
pins: 1 A16 (in), 2 A15 (in), 3 A14 (in), 4 A13 (in), 5 A12 (in), 6 A11 (in), 7 A9 (in), 8 A8 (in), 9 WE# (in), 10 RESET# (in), 11 NC, 12 RY/BY# (out), 13 A18 (in), 14 A7 (in), 15 A6 (in), 16 A5 (in), 17 A4 (in), 18 A3 (in), 19 A2 (in), 20 A1 (in), 21 A0 (in), 22 CE# (in), 23 VSS (power), 24 OE# (in), 25 DQ0 (io), 26 DQ1 (io), 27 DQ2 (io), 28 DQ3 (io), 29 NC, 30 VCC (power), 31 VCC (power), 32 DQ4 (io), 33 DQ5 (io), 34 DQ6 (io), 35 DQ7 (io), 36 A10 (in), 37 A19 (in), 38 NC, 39 VSS (power), 40 A17 (in)

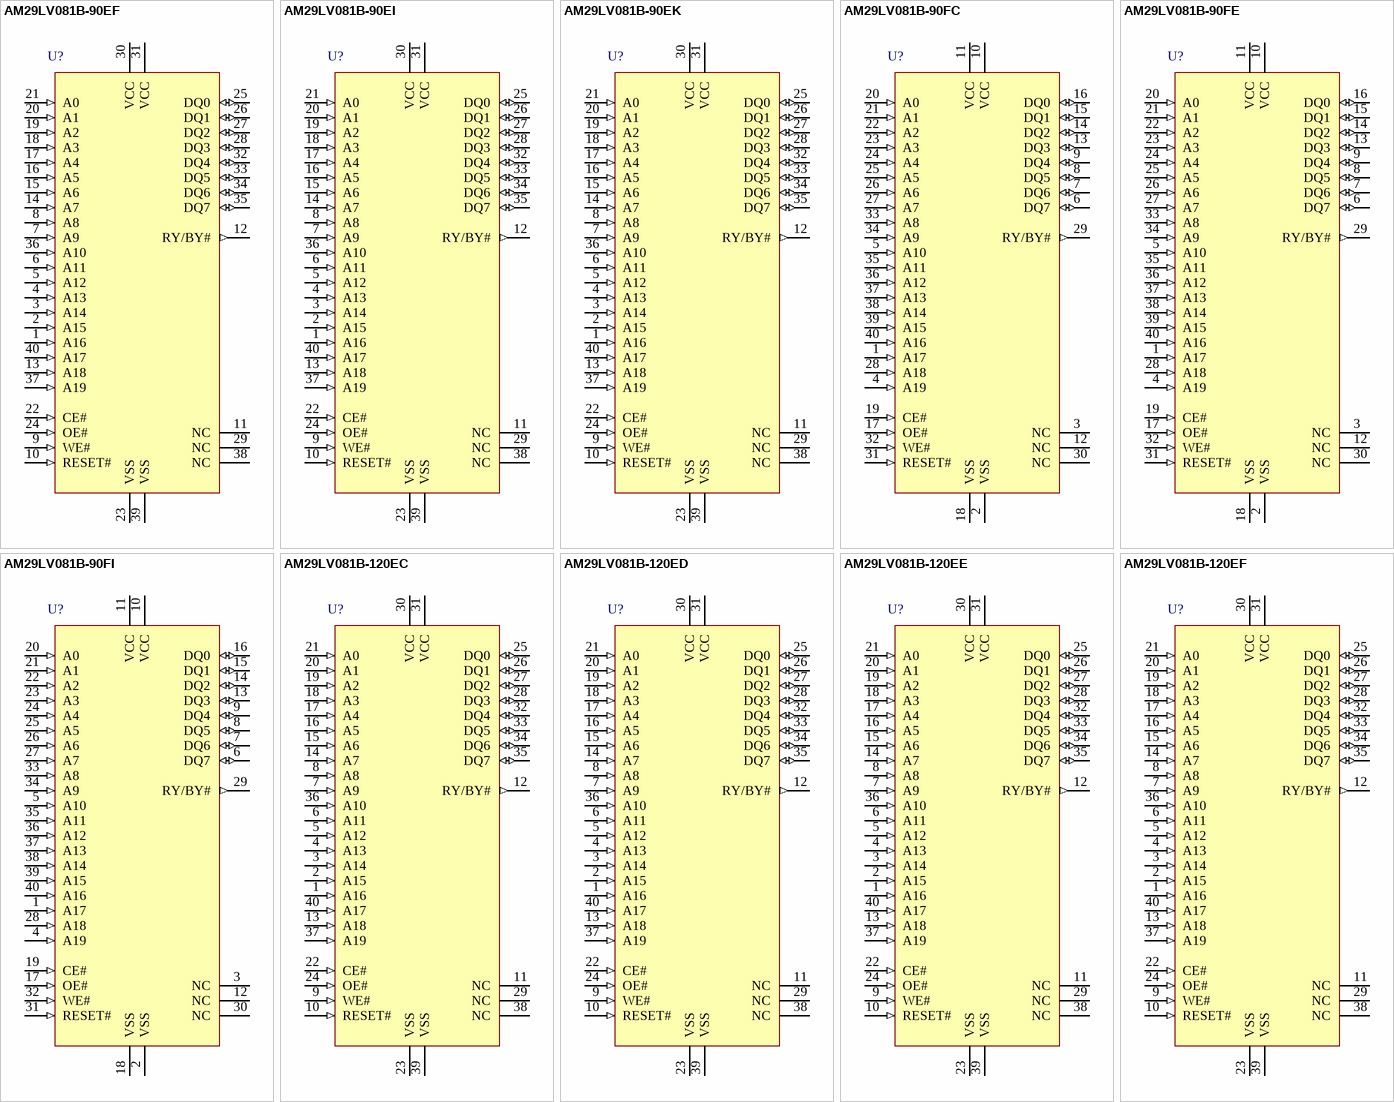
[diagram p27: symbols AM29LV081B-90EF to AM29LV081B-120EF]

## AM29LV081B-90EF
designator U?
8 Mb (1 M x 8) CMOS 3.0 Volt Uniform Sector Flash Memory, 40-Pin TSOP Standard Pinout, Industrial Grade, Pb-free; Published: 6-Oct-2005; DatasheetVersion: Jun-2004; PackageVersion: revAA, 10/99; PackageReference: TS040; Publisher: Altium Limited; PackageDescription: Thin Small Outline; 40 Leads; Body Width 18.4 mm; Pitch 0.5 mm; Code_JEDEC: MO-142-CD; ComponentLink1Description: Manufacturer Link; ComponentLink1URL: http://www.spansion.com/; ComponentLink2Description: Datasheet; ComponentLink2URL: http://www.spansion.com/datasheets/21525d3.pdf
footprint TS040 (Thin Small Outline; 40 Leads; Body Width 18.4 mm; Pitch 0.5 mm)
pins: 1 A16 (in), 2 A15 (in), 3 A14 (in), 4 A13 (in), 5 A12 (in), 6 A11 (in), 7 A9 (in), 8 A8 (in), 9 WE# (in), 10 RESET# (in), 11 NC, 12 RY/BY# (out), 13 A18 (in), 14 A7 (in), 15 A6 (in), 16 A5 (in), 17 A4 (in), 18 A3 (in), 19 A2 (in), 20 A1 (in), 21 A0 (in), 22 CE# (in), 23 VSS (power), 24 OE# (in), 25 DQ0 (io), 26 DQ1 (io), 27 DQ2 (io), 28 DQ3 (io), 29 NC, 30 VCC (power), 31 VCC (power), 32 DQ4 (io), 33 DQ5 (io), 34 DQ6 (io), 35 DQ7 (io), 36 A10 (in), 37 A19 (in), 38 NC, 39 VSS (power), 40 A17 (in)

## AM29LV081B-90EI
designator U?
8 Mb (1 M x 8) CMOS 3.0 Volt Uniform Sector Flash Memory, 40-Pin TSOP Standard Pinout, Industrial Grade; Published: 6-Oct-2005; DatasheetVersion: Jun-2004; PackageVersion: revAA, 10/99; PackageReference: TS040; Publisher: Altium Limited; PackageDescription: Thin Small Outline; 40 Leads; Body Width 18.4 mm; Pitch 0.5 mm; Code_JEDEC: MO-142-CD; ComponentLink1Description: Manufacturer Link; ComponentLink1URL: http://www.spansion.com/; ComponentLink2Description: Datasheet; ComponentLink2URL: http://www.spansion.com/datasheets/21525d3.pdf
footprint TS040 (Thin Small Outline; 40 Leads; Body Width 18.4 mm; Pitch 0.5 mm)
pins: 1 A16 (in), 2 A15 (in), 3 A14 (in), 4 A13 (in), 5 A12 (in), 6 A11 (in), 7 A9 (in), 8 A8 (in), 9 WE# (in), 10 RESET# (in), 11 NC, 12 RY/BY# (out), 13 A18 (in), 14 A7 (in), 15 A6 (in), 16 A5 (in), 17 A4 (in), 18 A3 (in), 19 A2 (in), 20 A1 (in), 21 A0 (in), 22 CE# (in), 23 VSS (power), 24 OE# (in), 25 DQ0 (io), 26 DQ1 (io), 27 DQ2 (io), 28 DQ3 (io), 29 NC, 30 VCC (power), 31 VCC (power), 32 DQ4 (io), 33 DQ5 (io), 34 DQ6 (io), 35 DQ7 (io), 36 A10 (in), 37 A19 (in), 38 NC, 39 VSS (power), 40 A17 (in)

## AM29LV081B-90EK
designator U?
8 Mb (1 M x 8) CMOS 3.0 Volt Uniform Sector Flash Memory, 40-Pin TSOP Standard Pinout, Extended Grade, Pb-free; Published: 6-Oct-2005; DatasheetVersion: Jun-2004; PackageVersion: revAA, 10/99; PackageReference: TS040; Publisher: Altium Limited; PackageDescription: Thin Small Outline; 40 Leads; Body Width 18.4 mm; Pitch 0.5 mm; Code_JEDEC: MO-142-CD; ComponentLink1Description: Manufacturer Link; ComponentLink1URL: http://www.spansion.com/; ComponentLink2Description: Datasheet; ComponentLink2URL: http://www.spansion.com/datasheets/21525d3.pdf
footprint TS040 (Thin Small Outline; 40 Leads; Body Width 18.4 mm; Pitch 0.5 mm)
pins: 1 A16 (in), 2 A15 (in), 3 A14 (in), 4 A13 (in), 5 A12 (in), 6 A11 (in), 7 A9 (in), 8 A8 (in), 9 WE# (in), 10 RESET# (in), 11 NC, 12 RY/BY# (out), 13 A18 (in), 14 A7 (in), 15 A6 (in), 16 A5 (in), 17 A4 (in), 18 A3 (in), 19 A2 (in), 20 A1 (in), 21 A0 (in), 22 CE# (in), 23 VSS (power), 24 OE# (in), 25 DQ0 (io), 26 DQ1 (io), 27 DQ2 (io), 28 DQ3 (io), 29 NC, 30 VCC (power), 31 VCC (power), 32 DQ4 (io), 33 DQ5 (io), 34 DQ6 (io), 35 DQ7 (io), 36 A10 (in), 37 A19 (in), 38 NC, 39 VSS (power), 40 A17 (in)

## AM29LV081B-90FC
designator U?
8 Mb (1 M x 8) CMOS 3.0 Volt Uniform Sector Flash Memory, 40-Pin TSOP Reverse Pinout, Commercial Grade; Published: 6-Oct-2005; DatasheetVersion: Jun-2004; PackageVersion: revAA, 10/99; PackageReference: TSR040; Publisher: Altium Limited; PackageDescription: Thin Small Outline, Reverse Pinout; 40 Leads; Body Width 18.4 mm; Pitch 0.5 mm; Code_JEDEC: MO-142-CD; ComponentLink1Description: Manufacturer Link; ComponentLink1URL: http://www.spansion.com/; ComponentLink2Description: Datasheet; ComponentLink2URL: http://www.spansion.com/datasheets/21525d3.pdf
footprint TSR040 (Thin Small Outline, Reverse Pinout; 40 Leads; Body Width 18.4 mm; Pitch 0.5 mm)
pins: 1 A17 (in), 2 VSS (power), 3 NC, 4 A19 (in), 5 A10 (in), 6 DQ7 (io), 7 DQ6 (io), 8 DQ5 (io), 9 DQ4 (io), 10 VCC (power), 11 VCC (power), 12 NC, 13 DQ3 (io), 14 DQ2 (io), 15 DQ1 (io), 16 DQ0 (io), 17 OE# (in), 18 VSS (power), 19 CE# (in), 20 A0 (in), 21 A1 (in), 22 A2 (in), 23 A3 (in), 24 A4 (in), 25 A5 (in), 26 A6 (in), 27 A7 (in), 28 A18 (in), 29 RY/BY# (out), 30 NC, 31 RESET# (in), 32 WE# (in), 33 A8 (in), 34 A9 (in), 35 A11 (in), 36 A12 (in), 37 A13 (in), 38 A14 (in), 39 A15 (in), 40 A16 (in)

## AM29LV081B-90FE
designator U?
8 Mb (1 M x 8) CMOS 3.0 Volt Uniform Sector Flash Memory, 40-Pin TSOP Reverse Pinout, Extended Grade; Published: 6-Oct-2005; DatasheetVersion: Jun-2004; PackageVersion: revAA, 10/99; PackageReference: TSR040; Publisher: Altium Limited; PackageDescription: Thin Small Outline, Reverse Pinout; 40 Leads; Body Width 18.4 mm; Pitch 0.5 mm; Code_JEDEC: MO-142-CD; ComponentLink1Description: Manufacturer Link; ComponentLink1URL: http://www.spansion.com/; ComponentLink2Description: Datasheet; ComponentLink2URL: http://www.spansion.com/datasheets/21525d3.pdf
footprint TSR040 (Thin Small Outline, Reverse Pinout; 40 Leads; Body Width 18.4 mm; Pitch 0.5 mm)
pins: 1 A17 (in), 2 VSS (power), 3 NC, 4 A19 (in), 5 A10 (in), 6 DQ7 (io), 7 DQ6 (io), 8 DQ5 (io), 9 DQ4 (io), 10 VCC (power), 11 VCC (power), 12 NC, 13 DQ3 (io), 14 DQ2 (io), 15 DQ1 (io), 16 DQ0 (io), 17 OE# (in), 18 VSS (power), 19 CE# (in), 20 A0 (in), 21 A1 (in), 22 A2 (in), 23 A3 (in), 24 A4 (in), 25 A5 (in), 26 A6 (in), 27 A7 (in), 28 A18 (in), 29 RY/BY# (out), 30 NC, 31 RESET# (in), 32 WE# (in), 33 A8 (in), 34 A9 (in), 35 A11 (in), 36 A12 (in), 37 A13 (in), 38 A14 (in), 39 A15 (in), 40 A16 (in)

## AM29LV081B-90FI
designator U?
8 Mb (1 M x 8) CMOS 3.0 Volt Uniform Sector Flash Memory, 40-Pin TSOP Reverse Pinout, Industrial Grade; Published: 6-Oct-2005; DatasheetVersion: Jun-2004; PackageVersion: revAA, 10/99; PackageReference: TSR040; Publisher: Altium Limited; PackageDescription: Thin Small Outline, Reverse Pinout; 40 Leads; Body Width 18.4 mm; Pitch 0.5 mm; Code_JEDEC: MO-142-CD; ComponentLink1Description: Manufacturer Link; ComponentLink1URL: http://www.spansion.com/; ComponentLink2Description: Datasheet; ComponentLink2URL: http://www.spansion.com/datasheets/21525d3.pdf
footprint TSR040 (Thin Small Outline, Reverse Pinout; 40 Leads; Body Width 18.4 mm; Pitch 0.5 mm)
pins: 1 A17 (in), 2 VSS (power), 3 NC, 4 A19 (in), 5 A10 (in), 6 DQ7 (io), 7 DQ6 (io), 8 DQ5 (io), 9 DQ4 (io), 10 VCC (power), 11 VCC (power), 12 NC, 13 DQ3 (io), 14 DQ2 (io), 15 DQ1 (io), 16 DQ0 (io), 17 OE# (in), 18 VSS (power), 19 CE# (in), 20 A0 (in), 21 A1 (in), 22 A2 (in), 23 A3 (in), 24 A4 (in), 25 A5 (in), 26 A6 (in), 27 A7 (in), 28 A18 (in), 29 RY/BY# (out), 30 NC, 31 RESET# (in), 32 WE# (in), 33 A8 (in), 34 A9 (in), 35 A11 (in), 36 A12 (in), 37 A13 (in), 38 A14 (in), 39 A15 (in), 40 A16 (in)

## AM29LV081B-120EC
designator U?
8 Mb (1 M x 8) CMOS 3.0 Volt Uniform Sector Flash Memory, 40-Pin TSOP Standard Pinout, Commercial Grade; Published: 6-Oct-2005; DatasheetVersion: Jun-2004; PackageVersion: revAA, 10/99; PackageReference: TS040; Publisher: Altium Limited; PackageDescription: Thin Small Outline; 40 Leads; Body Width 18.4 mm; Pitch 0.5 mm; Code_JEDEC: MO-142-CD; ComponentLink1Description: Manufacturer Link; ComponentLink1URL: http://www.spansion.com/; ComponentLink2Description: Datasheet; ComponentLink2URL: http://www.spansion.com/datasheets/21525d3.pdf
footprint TS040 (Thin Small Outline; 40 Leads; Body Width 18.4 mm; Pitch 0.5 mm)
pins: 1 A16 (in), 2 A15 (in), 3 A14 (in), 4 A13 (in), 5 A12 (in), 6 A11 (in), 7 A9 (in), 8 A8 (in), 9 WE# (in), 10 RESET# (in), 11 NC, 12 RY/BY# (out), 13 A18 (in), 14 A7 (in), 15 A6 (in), 16 A5 (in), 17 A4 (in), 18 A3 (in), 19 A2 (in), 20 A1 (in), 21 A0 (in), 22 CE# (in), 23 VSS (power), 24 OE# (in), 25 DQ0 (io), 26 DQ1 (io), 27 DQ2 (io), 28 DQ3 (io), 29 NC, 30 VCC (power), 31 VCC (power), 32 DQ4 (io), 33 DQ5 (io), 34 DQ6 (io), 35 DQ7 (io), 36 A10 (in), 37 A19 (in), 38 NC, 39 VSS (power), 40 A17 (in)

## AM29LV081B-120ED
designator U?
8 Mb (1 M x 8) CMOS 3.0 Volt Uniform Sector Flash Memory, 40-Pin TSOP Standard Pinout, Commercial Grade, Pb-free; Published: 6-Oct-2005; DatasheetVersion: Jun-2004; PackageVersion: revAA, 10/99; PackageReference: TS040; Publisher: Altium Limited; PackageDescription: Thin Small Outline; 40 Leads; Body Width 18.4 mm; Pitch 0.5 mm; Code_JEDEC: MO-142-CD; ComponentLink1Description: Manufacturer Link; ComponentLink1URL: http://www.spansion.com/; ComponentLink2Description: Datasheet; ComponentLink2URL: http://www.spansion.com/datasheets/21525d3.pdf
footprint TS040 (Thin Small Outline; 40 Leads; Body Width 18.4 mm; Pitch 0.5 mm)
pins: 1 A16 (in), 2 A15 (in), 3 A14 (in), 4 A13 (in), 5 A12 (in), 6 A11 (in), 7 A9 (in), 8 A8 (in), 9 WE# (in), 10 RESET# (in), 11 NC, 12 RY/BY# (out), 13 A18 (in), 14 A7 (in), 15 A6 (in), 16 A5 (in), 17 A4 (in), 18 A3 (in), 19 A2 (in), 20 A1 (in), 21 A0 (in), 22 CE# (in), 23 VSS (power), 24 OE# (in), 25 DQ0 (io), 26 DQ1 (io), 27 DQ2 (io), 28 DQ3 (io), 29 NC, 30 VCC (power), 31 VCC (power), 32 DQ4 (io), 33 DQ5 (io), 34 DQ6 (io), 35 DQ7 (io), 36 A10 (in), 37 A19 (in), 38 NC, 39 VSS (power), 40 A17 (in)

## AM29LV081B-120EE
designator U?
8 Mb (1 M x 8) CMOS 3.0 Volt Uniform Sector Flash Memory, 40-Pin TSOP Standard Pinout, Extended Grade; Published: 6-Oct-2005; DatasheetVersion: Jun-2004; PackageVersion: revAA, 10/99; PackageReference: TS040; Publisher: Altium Limited; PackageDescription: Thin Small Outline; 40 Leads; Body Width 18.4 mm; Pitch 0.5 mm; Code_JEDEC: MO-142-CD; ComponentLink1Description: Manufacturer Link; ComponentLink1URL: http://www.spansion.com/; ComponentLink2Description: Datasheet; ComponentLink2URL: http://www.spansion.com/datasheets/21525d3.pdf
footprint TS040 (Thin Small Outline; 40 Leads; Body Width 18.4 mm; Pitch 0.5 mm)
pins: 1 A16 (in), 2 A15 (in), 3 A14 (in), 4 A13 (in), 5 A12 (in), 6 A11 (in), 7 A9 (in), 8 A8 (in), 9 WE# (in), 10 RESET# (in), 11 NC, 12 RY/BY# (out), 13 A18 (in), 14 A7 (in), 15 A6 (in), 16 A5 (in), 17 A4 (in), 18 A3 (in), 19 A2 (in), 20 A1 (in), 21 A0 (in), 22 CE# (in), 23 VSS (power), 24 OE# (in), 25 DQ0 (io), 26 DQ1 (io), 27 DQ2 (io), 28 DQ3 (io), 29 NC, 30 VCC (power), 31 VCC (power), 32 DQ4 (io), 33 DQ5 (io), 34 DQ6 (io), 35 DQ7 (io), 36 A10 (in), 37 A19 (in), 38 NC, 39 VSS (power), 40 A17 (in)

## AM29LV081B-120EF
designator U?
8 Mb (1 M x 8) CMOS 3.0 Volt Uniform Sector Flash Memory, 40-Pin TSOP Standard Pinout, Industrial Grade, Pb-free; Published: 6-Oct-2005; DatasheetVersion: Jun-2004; PackageVersion: revAA, 10/99; PackageReference: TS040; Publisher: Altium Limited; PackageDescription: Thin Small Outline; 40 Leads; Body Width 18.4 mm; Pitch 0.5 mm; Code_JEDEC: MO-142-CD; ComponentLink1Description: Manufacturer Link; ComponentLink1URL: http://www.spansion.com/; ComponentLink2Description: Datasheet; ComponentLink2URL: http://www.spansion.com/datasheets/21525d3.pdf
footprint TS040 (Thin Small Outline; 40 Leads; Body Width 18.4 mm; Pitch 0.5 mm)
pins: 1 A16 (in), 2 A15 (in), 3 A14 (in), 4 A13 (in), 5 A12 (in), 6 A11 (in), 7 A9 (in), 8 A8 (in), 9 WE# (in), 10 RESET# (in), 11 NC, 12 RY/BY# (out), 13 A18 (in), 14 A7 (in), 15 A6 (in), 16 A5 (in), 17 A4 (in), 18 A3 (in), 19 A2 (in), 20 A1 (in), 21 A0 (in), 22 CE# (in), 23 VSS (power), 24 OE# (in), 25 DQ0 (io), 26 DQ1 (io), 27 DQ2 (io), 28 DQ3 (io), 29 NC, 30 VCC (power), 31 VCC (power), 32 DQ4 (io), 33 DQ5 (io), 34 DQ6 (io), 35 DQ7 (io), 36 A10 (in), 37 A19 (in), 38 NC, 39 VSS (power), 40 A17 (in)

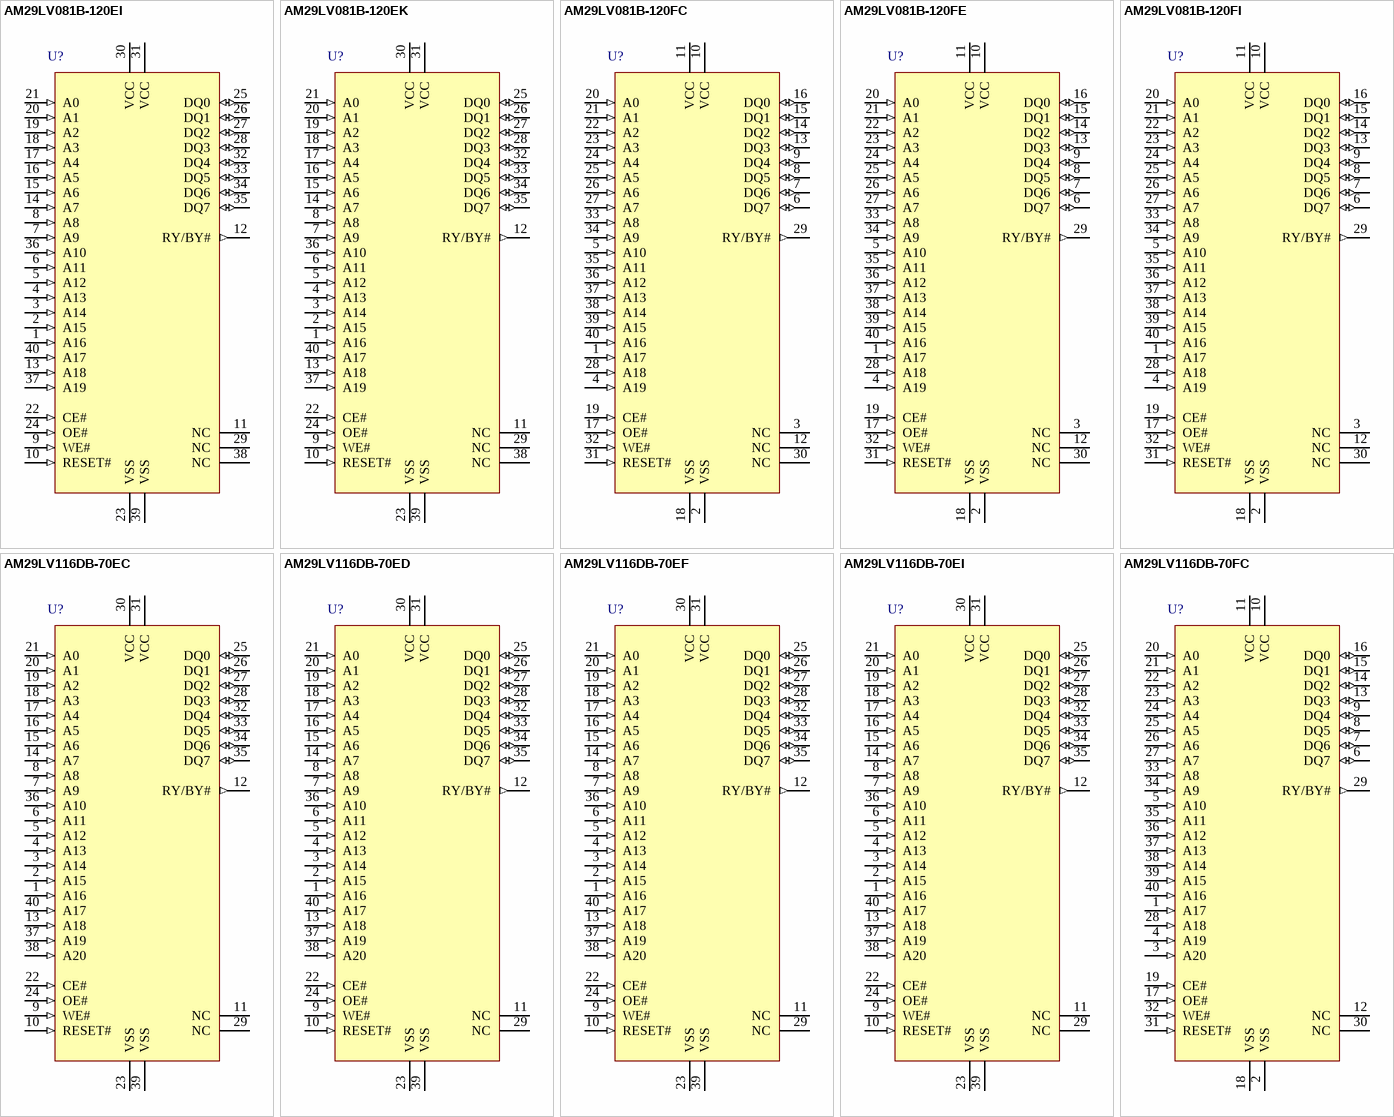
[diagram p28: symbols AM29LV081B-120EI to AM29LV116DB-70FC]

## AM29LV081B-120EI
designator U?
8 Mb (1 M x 8) CMOS 3.0 Volt Uniform Sector Flash Memory, 40-Pin TSOP Standard Pinout, Industrial Grade; Published: 6-Oct-2005; DatasheetVersion: Jun-2004; PackageVersion: revAA, 10/99; PackageReference: TS040; Publisher: Altium Limited; PackageDescription: Thin Small Outline; 40 Leads; Body Width 18.4 mm; Pitch 0.5 mm; Code_JEDEC: MO-142-CD; ComponentLink1Description: Manufacturer Link; ComponentLink1URL: http://www.spansion.com/; ComponentLink2Description: Datasheet; ComponentLink2URL: http://www.spansion.com/datasheets/21525d3.pdf
footprint TS040 (Thin Small Outline; 40 Leads; Body Width 18.4 mm; Pitch 0.5 mm)
pins: 1 A16 (in), 2 A15 (in), 3 A14 (in), 4 A13 (in), 5 A12 (in), 6 A11 (in), 7 A9 (in), 8 A8 (in), 9 WE# (in), 10 RESET# (in), 11 NC, 12 RY/BY# (out), 13 A18 (in), 14 A7 (in), 15 A6 (in), 16 A5 (in), 17 A4 (in), 18 A3 (in), 19 A2 (in), 20 A1 (in), 21 A0 (in), 22 CE# (in), 23 VSS (power), 24 OE# (in), 25 DQ0 (io), 26 DQ1 (io), 27 DQ2 (io), 28 DQ3 (io), 29 NC, 30 VCC (power), 31 VCC (power), 32 DQ4 (io), 33 DQ5 (io), 34 DQ6 (io), 35 DQ7 (io), 36 A10 (in), 37 A19 (in), 38 NC, 39 VSS (power), 40 A17 (in)

## AM29LV081B-120EK
designator U?
8 Mb (1 M x 8) CMOS 3.0 Volt Uniform Sector Flash Memory, 40-Pin TSOP Standard Pinout, Extended Grade, Pb-free; Published: 6-Oct-2005; DatasheetVersion: Jun-2004; PackageVersion: revAA, 10/99; PackageReference: TS040; Publisher: Altium Limited; PackageDescription: Thin Small Outline; 40 Leads; Body Width 18.4 mm; Pitch 0.5 mm; Code_JEDEC: MO-142-CD; ComponentLink1Description: Manufacturer Link; ComponentLink1URL: http://www.spansion.com/; ComponentLink2Description: Datasheet; ComponentLink2URL: http://www.spansion.com/datasheets/21525d3.pdf
footprint TS040 (Thin Small Outline; 40 Leads; Body Width 18.4 mm; Pitch 0.5 mm)
pins: 1 A16 (in), 2 A15 (in), 3 A14 (in), 4 A13 (in), 5 A12 (in), 6 A11 (in), 7 A9 (in), 8 A8 (in), 9 WE# (in), 10 RESET# (in), 11 NC, 12 RY/BY# (out), 13 A18 (in), 14 A7 (in), 15 A6 (in), 16 A5 (in), 17 A4 (in), 18 A3 (in), 19 A2 (in), 20 A1 (in), 21 A0 (in), 22 CE# (in), 23 VSS (power), 24 OE# (in), 25 DQ0 (io), 26 DQ1 (io), 27 DQ2 (io), 28 DQ3 (io), 29 NC, 30 VCC (power), 31 VCC (power), 32 DQ4 (io), 33 DQ5 (io), 34 DQ6 (io), 35 DQ7 (io), 36 A10 (in), 37 A19 (in), 38 NC, 39 VSS (power), 40 A17 (in)

## AM29LV081B-120FC
designator U?
8 Mb (1 M x 8) CMOS 3.0 Volt Uniform Sector Flash Memory, 40-Pin TSOP Reverse Pinout, Commercial Grade; Published: 6-Oct-2005; DatasheetVersion: Jun-2004; PackageVersion: revAA, 10/99; PackageReference: TSR040; Publisher: Altium Limited; PackageDescription: Thin Small Outline, Reverse Pinout; 40 Leads; Body Width 18.4 mm; Pitch 0.5 mm; Code_JEDEC: MO-142-CD; ComponentLink1Description: Manufacturer Link; ComponentLink1URL: http://www.spansion.com/; ComponentLink2Description: Datasheet; ComponentLink2URL: http://www.spansion.com/datasheets/21525d3.pdf
footprint TSR040 (Thin Small Outline, Reverse Pinout; 40 Leads; Body Width 18.4 mm; Pitch 0.5 mm)
pins: 1 A17 (in), 2 VSS (power), 3 NC, 4 A19 (in), 5 A10 (in), 6 DQ7 (io), 7 DQ6 (io), 8 DQ5 (io), 9 DQ4 (io), 10 VCC (power), 11 VCC (power), 12 NC, 13 DQ3 (io), 14 DQ2 (io), 15 DQ1 (io), 16 DQ0 (io), 17 OE# (in), 18 VSS (power), 19 CE# (in), 20 A0 (in), 21 A1 (in), 22 A2 (in), 23 A3 (in), 24 A4 (in), 25 A5 (in), 26 A6 (in), 27 A7 (in), 28 A18 (in), 29 RY/BY# (out), 30 NC, 31 RESET# (in), 32 WE# (in), 33 A8 (in), 34 A9 (in), 35 A11 (in), 36 A12 (in), 37 A13 (in), 38 A14 (in), 39 A15 (in), 40 A16 (in)

## AM29LV081B-120FE
designator U?
8 Mb (1 M x 8) CMOS 3.0 Volt Uniform Sector Flash Memory, 40-Pin TSOP Reverse Pinout, Extended Grade; Published: 6-Oct-2005; DatasheetVersion: Jun-2004; PackageVersion: revAA, 10/99; PackageReference: TSR040; Publisher: Altium Limited; PackageDescription: Thin Small Outline, Reverse Pinout; 40 Leads; Body Width 18.4 mm; Pitch 0.5 mm; Code_JEDEC: MO-142-CD; ComponentLink1Description: Manufacturer Link; ComponentLink1URL: http://www.spansion.com/; ComponentLink2Description: Datasheet; ComponentLink2URL: http://www.spansion.com/datasheets/21525d3.pdf
footprint TSR040 (Thin Small Outline, Reverse Pinout; 40 Leads; Body Width 18.4 mm; Pitch 0.5 mm)
pins: 1 A17 (in), 2 VSS (power), 3 NC, 4 A19 (in), 5 A10 (in), 6 DQ7 (io), 7 DQ6 (io), 8 DQ5 (io), 9 DQ4 (io), 10 VCC (power), 11 VCC (power), 12 NC, 13 DQ3 (io), 14 DQ2 (io), 15 DQ1 (io), 16 DQ0 (io), 17 OE# (in), 18 VSS (power), 19 CE# (in), 20 A0 (in), 21 A1 (in), 22 A2 (in), 23 A3 (in), 24 A4 (in), 25 A5 (in), 26 A6 (in), 27 A7 (in), 28 A18 (in), 29 RY/BY# (out), 30 NC, 31 RESET# (in), 32 WE# (in), 33 A8 (in), 34 A9 (in), 35 A11 (in), 36 A12 (in), 37 A13 (in), 38 A14 (in), 39 A15 (in), 40 A16 (in)

## AM29LV081B-120FI
designator U?
8 Mb (1 M x 8) CMOS 3.0 Volt Uniform Sector Flash Memory, 40-Pin TSOP Reverse Pinout, Industrial Grade; Published: 6-Oct-2005; DatasheetVersion: Jun-2004; PackageVersion: revAA, 10/99; PackageReference: TSR040; Publisher: Altium Limited; PackageDescription: Thin Small Outline, Reverse Pinout; 40 Leads; Body Width 18.4 mm; Pitch 0.5 mm; Code_JEDEC: MO-142-CD; ComponentLink1Description: Manufacturer Link; ComponentLink1URL: http://www.spansion.com/; ComponentLink2Description: Datasheet; ComponentLink2URL: http://www.spansion.com/datasheets/21525d3.pdf
footprint TSR040 (Thin Small Outline, Reverse Pinout; 40 Leads; Body Width 18.4 mm; Pitch 0.5 mm)
pins: 1 A17 (in), 2 VSS (power), 3 NC, 4 A19 (in), 5 A10 (in), 6 DQ7 (io), 7 DQ6 (io), 8 DQ5 (io), 9 DQ4 (io), 10 VCC (power), 11 VCC (power), 12 NC, 13 DQ3 (io), 14 DQ2 (io), 15 DQ1 (io), 16 DQ0 (io), 17 OE# (in), 18 VSS (power), 19 CE# (in), 20 A0 (in), 21 A1 (in), 22 A2 (in), 23 A3 (in), 24 A4 (in), 25 A5 (in), 26 A6 (in), 27 A7 (in), 28 A18 (in), 29 RY/BY# (out), 30 NC, 31 RESET# (in), 32 WE# (in), 33 A8 (in), 34 A9 (in), 35 A11 (in), 36 A12 (in), 37 A13 (in), 38 A14 (in), 39 A15 (in), 40 A16 (in)

## AM29LV116DB-70EC
designator U?
16 Mb (2 M x 8) CMOS 3.0 Volt Boot Sector Flash Memory, 40-Pin TSOP Standard Pinout, Commercial Grade; Published: 6-Oct-2005; DatasheetVersion: May-2004; PackageVersion: revAA, 10/99; PackageReference: TS040; Publisher: Altium Limited; PackageDescription: Thin Small Outline; 40 Leads; Body Width 18.4 mm; Pitch 0.5 mm; Code_JEDEC: MO-142-CD; ComponentLink1Description: Manufacturer Link; ComponentLink1URL: http://www.spansion.com/; ComponentLink2Description: Datasheet; ComponentLink2URL: http://www.spansion.com/datasheets/21359e2.pdf
footprint TS040 (Thin Small Outline; 40 Leads; Body Width 18.4 mm; Pitch 0.5 mm)
pins: 1 A16 (in), 2 A15 (in), 3 A14 (in), 4 A13 (in), 5 A12 (in), 6 A11 (in), 7 A9 (in), 8 A8 (in), 9 WE# (in), 10 RESET# (in), 11 NC, 12 RY/BY# (out), 13 A18 (in), 14 A7 (in), 15 A6 (in), 16 A5 (in), 17 A4 (in), 18 A3 (in), 19 A2 (in), 20 A1 (in), 21 A0 (in), 22 CE# (in), 23 VSS (power), 24 OE# (in), 25 DQ0 (io), 26 DQ1 (io), 27 DQ2 (io), 28 DQ3 (io), 29 NC, 30 VCC (power), 31 VCC (power), 32 DQ4 (io), 33 DQ5 (io), 34 DQ6 (io), 35 DQ7 (io), 36 A10 (in), 37 A19 (in), 38 A20 (in), 39 VSS (power), 40 A17 (in)

## AM29LV116DB-70ED
designator U?
16 Mb (2 M x 8) CMOS 3.0 Volt Boot Sector Flash Memory, 40-Pin TSOP Standard Pinout, Commercial Grade, Pb-free; Published: 6-Oct-2005; DatasheetVersion: May-2004; PackageVersion: revAA, 10/99; PackageReference: TS040; Publisher: Altium Limited; PackageDescription: Thin Small Outline; 40 Leads; Body Width 18.4 mm; Pitch 0.5 mm; Code_JEDEC: MO-142-CD; ComponentLink1Description: Manufacturer Link; ComponentLink1URL: http://www.spansion.com/; ComponentLink2Description: Datasheet; ComponentLink2URL: http://www.spansion.com/datasheets/21359e2.pdf
footprint TS040 (Thin Small Outline; 40 Leads; Body Width 18.4 mm; Pitch 0.5 mm)
pins: 1 A16 (in), 2 A15 (in), 3 A14 (in), 4 A13 (in), 5 A12 (in), 6 A11 (in), 7 A9 (in), 8 A8 (in), 9 WE# (in), 10 RESET# (in), 11 NC, 12 RY/BY# (out), 13 A18 (in), 14 A7 (in), 15 A6 (in), 16 A5 (in), 17 A4 (in), 18 A3 (in), 19 A2 (in), 20 A1 (in), 21 A0 (in), 22 CE# (in), 23 VSS (power), 24 OE# (in), 25 DQ0 (io), 26 DQ1 (io), 27 DQ2 (io), 28 DQ3 (io), 29 NC, 30 VCC (power), 31 VCC (power), 32 DQ4 (io), 33 DQ5 (io), 34 DQ6 (io), 35 DQ7 (io), 36 A10 (in), 37 A19 (in), 38 A20 (in), 39 VSS (power), 40 A17 (in)

## AM29LV116DB-70EF
designator U?
16 Mb (2 M x 8) CMOS 3.0 Volt Boot Sector Flash Memory, 40-Pin TSOP Standard Pinout, Industrial Grade, Pb-free; Published: 6-Oct-2005; DatasheetVersion: May-2004; PackageVersion: revAA, 10/99; PackageReference: TS040; Publisher: Altium Limited; PackageDescription: Thin Small Outline; 40 Leads; Body Width 18.4 mm; Pitch 0.5 mm; Code_JEDEC: MO-142-CD; ComponentLink1Description: Manufacturer Link; ComponentLink1URL: http://www.spansion.com/; ComponentLink2Description: Datasheet; ComponentLink2URL: http://www.spansion.com/datasheets/21359e2.pdf
footprint TS040 (Thin Small Outline; 40 Leads; Body Width 18.4 mm; Pitch 0.5 mm)
pins: 1 A16 (in), 2 A15 (in), 3 A14 (in), 4 A13 (in), 5 A12 (in), 6 A11 (in), 7 A9 (in), 8 A8 (in), 9 WE# (in), 10 RESET# (in), 11 NC, 12 RY/BY# (out), 13 A18 (in), 14 A7 (in), 15 A6 (in), 16 A5 (in), 17 A4 (in), 18 A3 (in), 19 A2 (in), 20 A1 (in), 21 A0 (in), 22 CE# (in), 23 VSS (power), 24 OE# (in), 25 DQ0 (io), 26 DQ1 (io), 27 DQ2 (io), 28 DQ3 (io), 29 NC, 30 VCC (power), 31 VCC (power), 32 DQ4 (io), 33 DQ5 (io), 34 DQ6 (io), 35 DQ7 (io), 36 A10 (in), 37 A19 (in), 38 A20 (in), 39 VSS (power), 40 A17 (in)

## AM29LV116DB-70EI
designator U?
16 Mb (2 M x 8) CMOS 3.0 Volt Boot Sector Flash Memory, 40-Pin TSOP Standard Pinout, Industrial Grade; Published: 6-Oct-2005; DatasheetVersion: May-2004; PackageVersion: revAA, 10/99; PackageReference: TS040; Publisher: Altium Limited; PackageDescription: Thin Small Outline; 40 Leads; Body Width 18.4 mm; Pitch 0.5 mm; Code_JEDEC: MO-142-CD; ComponentLink1Description: Manufacturer Link; ComponentLink1URL: http://www.spansion.com/; ComponentLink2Description: Datasheet; ComponentLink2URL: http://www.spansion.com/datasheets/21359e2.pdf
footprint TS040 (Thin Small Outline; 40 Leads; Body Width 18.4 mm; Pitch 0.5 mm)
pins: 1 A16 (in), 2 A15 (in), 3 A14 (in), 4 A13 (in), 5 A12 (in), 6 A11 (in), 7 A9 (in), 8 A8 (in), 9 WE# (in), 10 RESET# (in), 11 NC, 12 RY/BY# (out), 13 A18 (in), 14 A7 (in), 15 A6 (in), 16 A5 (in), 17 A4 (in), 18 A3 (in), 19 A2 (in), 20 A1 (in), 21 A0 (in), 22 CE# (in), 23 VSS (power), 24 OE# (in), 25 DQ0 (io), 26 DQ1 (io), 27 DQ2 (io), 28 DQ3 (io), 29 NC, 30 VCC (power), 31 VCC (power), 32 DQ4 (io), 33 DQ5 (io), 34 DQ6 (io), 35 DQ7 (io), 36 A10 (in), 37 A19 (in), 38 A20 (in), 39 VSS (power), 40 A17 (in)

## AM29LV116DB-70FC
designator U?
16 Mb (2 M x 8) CMOS 3.0 Volt Boot Sector Flash Memory, 40-Pin TSOP Reverse Pinout, Commercial Grade; Published: 6-Oct-2005; DatasheetVersion: May-2004; PackageVersion: revAA, 10/99; PackageReference: TSR040; Publisher: Altium Limited; PackageDescription: Thin Small Outline, Reverse Pinout; 40 Leads; Body Width 18.4 mm; Pitch 0.5 mm; Code_JEDEC: MO-142-CD; ComponentLink1Description: Manufacturer Link; ComponentLink1URL: http://www.spansion.com/; ComponentLink2Description: Datasheet; ComponentLink2URL: http://www.spansion.com/datasheets/21359e2.pdf
footprint TSR040 (Thin Small Outline, Reverse Pinout; 40 Leads; Body Width 18.4 mm; Pitch 0.5 mm)
pins: 1 A17 (in), 2 VSS (power), 3 A20 (in), 4 A19 (in), 5 A10 (in), 6 DQ7 (io), 7 DQ6 (io), 8 DQ5 (io), 9 DQ4 (io), 10 VCC (power), 11 VCC (power), 12 NC, 13 DQ3 (io), 14 DQ2 (io), 15 DQ1 (io), 16 DQ0 (io), 17 OE# (in), 18 VSS (power), 19 CE# (in), 20 A0 (in), 21 A1 (in), 22 A2 (in), 23 A3 (in), 24 A4 (in), 25 A5 (in), 26 A6 (in), 27 A7 (in), 28 A18 (in), 29 RY/BY# (out), 30 NC, 31 RESET# (in), 32 WE# (in), 33 A8 (in), 34 A9 (in), 35 A11 (in), 36 A12 (in), 37 A13 (in), 38 A14 (in), 39 A15 (in), 40 A16 (in)

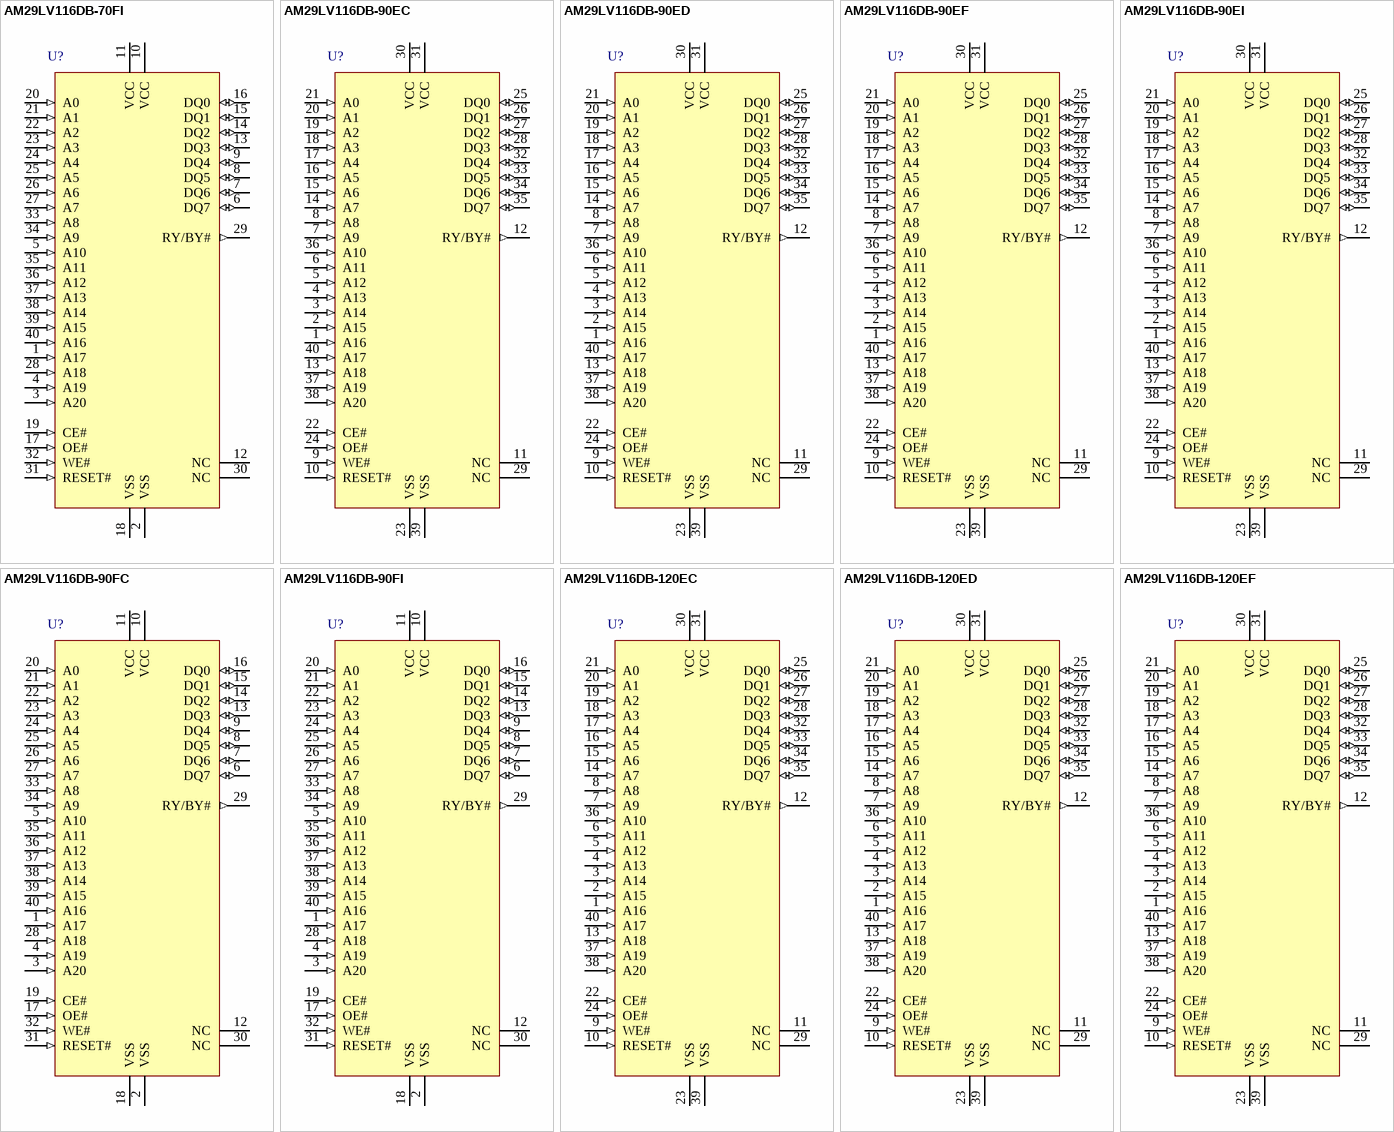
[diagram p29: symbols AM29LV116DB-70FI to AM29LV116DB-120EF]